# Altium schematic symbol library micro-intel.SCHLIB: 81 symbols (part 1 of 2)
Pins are listed as number, name and electrical type; pins without a type are passive.

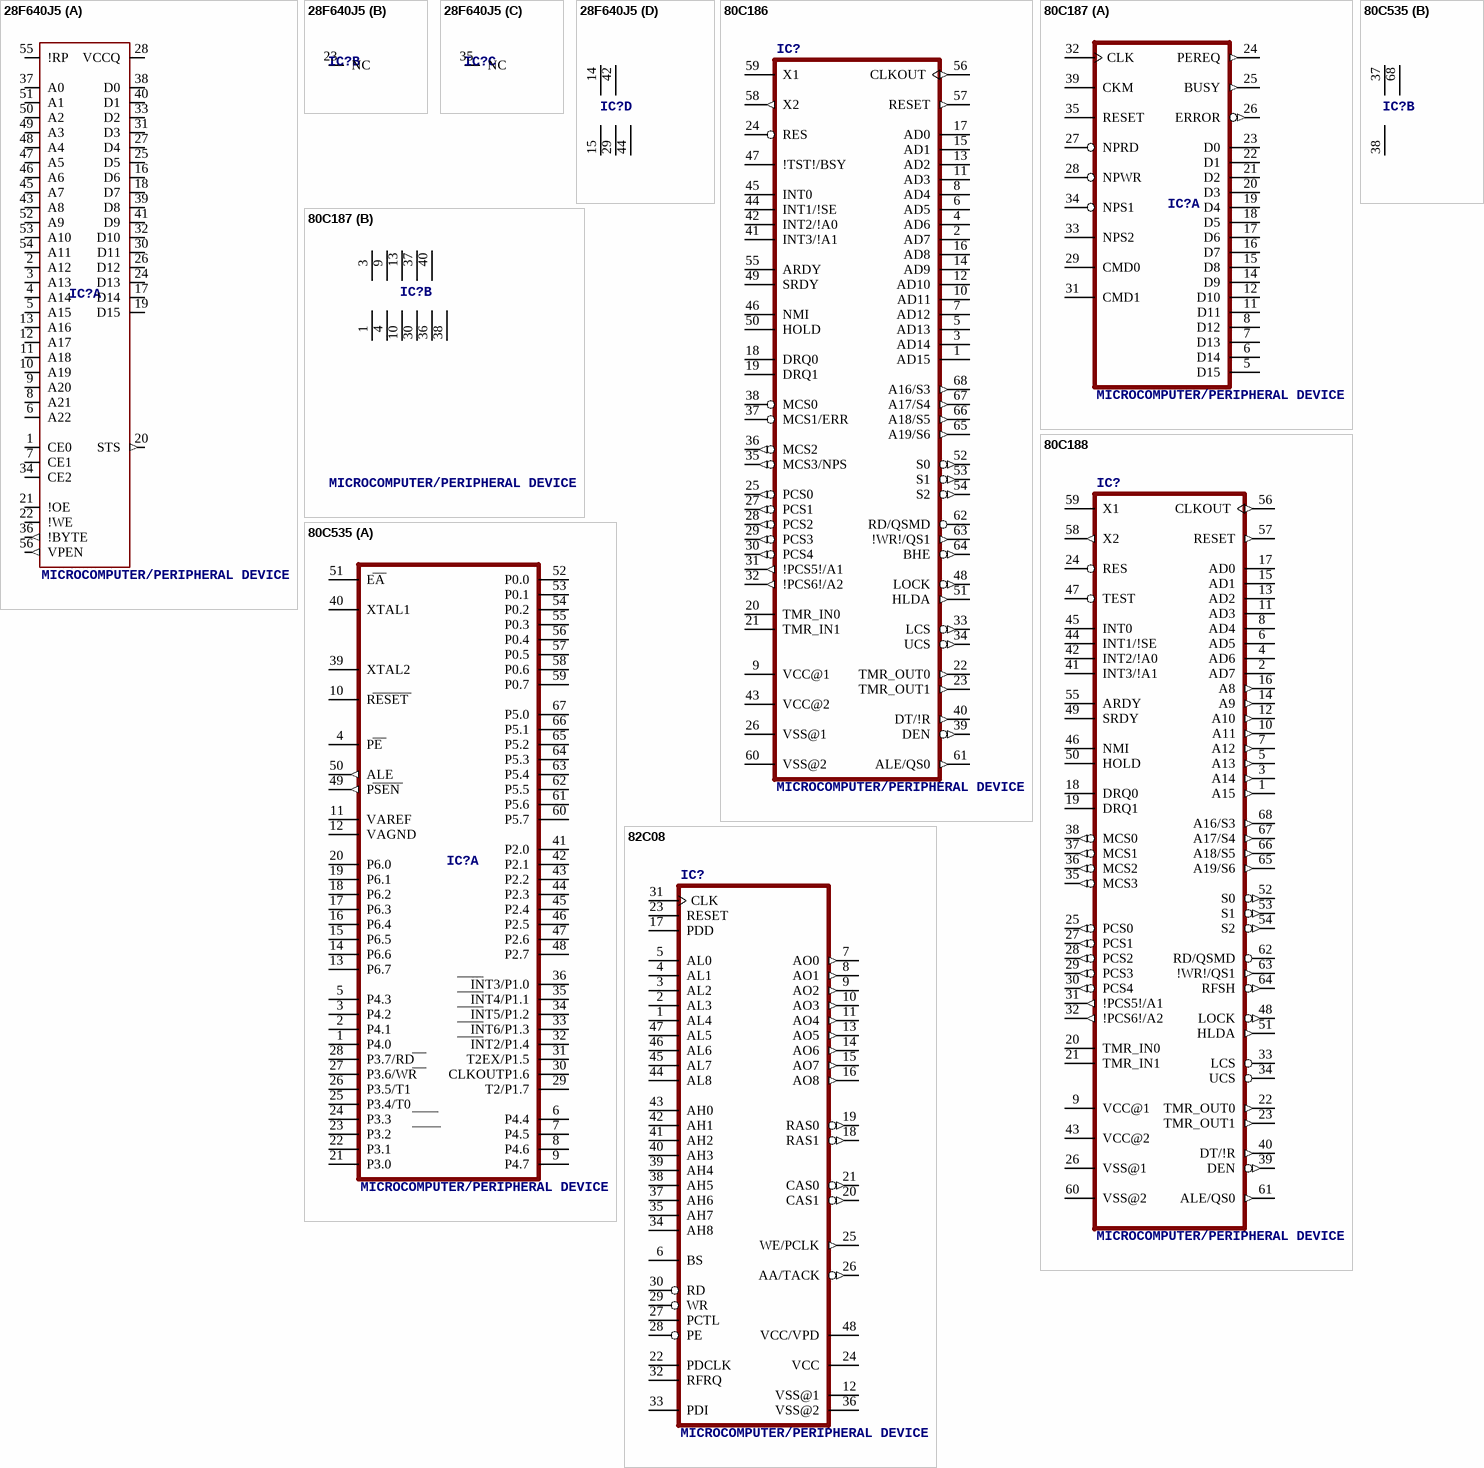
[diagram p0: symbols 28F640J5 to 82C08]

## 28F640J5
designator IC?, comment MICROCOMPUTER/PERIPHERAL DEVICE
OC_FARNELL: unknown; OC_NEWARK: unknown
footprint TSOP56
part A pins: 1 CE0, 2 A12, 3 A13, 4 A14, 5 A15, 6 A22, 7 CE1, 8 A21, 9 A20, 10 A19, 11 A18, 12 A17, 13 A16, 16 D6 (hiz), 17 D14 (hiz), 18 D7 (hiz), 19 D15 (hiz), 20 STS (out), 21 !OE, 22 !WE, 24 D13 (hiz), 25 D5 (hiz), 26 D12 (hiz), 27 D4 (hiz), 28 VCCQ (power), 30 D11 (hiz), 31 D3 (hiz), 32 D10 (hiz), 33 D2 (hiz), 34 CE2, 36 !BYTE (out), 37 A0, 38 D0 (hiz), 39 D8 (hiz), 40 D1 (hiz), 41 D9 (hiz), 43 A8, 45 A7, 46 A6, 47 A5, 48 A4, 49 A3, 50 A2, 51 A1, 52 A9, 53 A10, 54 A11, 55 !RP, 56 VPEN (out)
part B pins: 23 NC
part C pins: 35 NC
part D pins: 14 VCC@1 (power), 15 GND@1 (power), 29 GND@2 (power), 42 VCC@2 (power), 44 GND@3 (power)

## 80C186
designator IC?, comment MICROCOMPUTER/PERIPHERAL DEVICE
OC_FARNELL: unknown; OC_NEWARK: unknown
footprint PGA68-N
pins: 1 AD15, 2 AD7, 3 AD14, 4 AD6, 5 AD13, 6 AD5, 7 AD12, 8 AD4, 9 VCC@1 (power), 10 AD11, 11 AD3, 12 AD10, 13 AD2, 14 AD9, 15 AD1, 16 AD8, 17 AD0, 18 DRQ0, 19 DRQ1, 20 TMR_IN0, 21 TMR_IN1, 22 TMR_OUT0 (out), 23 TMR_OUT1 (out), 24 RES, 25 PCS0 (out), 26 VSS@1 (power), 27 PCS1 (out), 28 PCS2 (out), 29 PCS3 (out), 30 PCS4 (out), 31 !PCS5!/A1 (out), 32 !PCS6!/A2 (out), 33 LCS (out), 34 UCS (out), 35 MCS3/NPS (out), 36 MCS2 (out), 37 MCS1/ERR, 38 MCS0, 39 DEN (out), 40 DT/!R (out), 41 INT3/!A1, 42 INT2/!A0, 43 VCC@2 (power), 44 INT1/!SE, 45 INT0, 46 NMI, 47 !TST!/BSY, 48 LOCK (out), 49 SRDY, 50 HOLD, 51 HLDA (out), 52 S0 (out), 53 S1 (out), 54 S2 (out), 55 ARDY, 56 CLKOUT (out), 57 RESET (out), 58 X2 (out), 59 X1, 60 VSS@2 (power), 61 ALE/QS0 (out), 62 RD/QSMD, 63 !WR!/QS1 (out), 64 BHE (out), 65 A19/S6 (out), 66 A18/S5 (out), 67 A17/S4 (out), 68 A16/S3 (out)

## 80C187
designator IC?, comment MICROCOMPUTER/PERIPHERAL DEVICE
OC_FARNELL: unknown; OC_NEWARK: unknown
footprint DIL40
part A pins: 5 D15, 6 D14, 7 D13, 8 D12, 11 D11, 12 D10, 14 D9, 15 D8, 16 D7, 17 D6, 18 D5, 19 D4, 20 D3, 21 D2, 22 D1, 23 D0, 24 PEREQ (out), 25 BUSY (out), 26 ERROR (out), 27 NPRD, 28 NPWR, 29 CMD0, 31 CMD1, 32 CLK, 33 NPS2, 34 NPS1, 35 RESET, 39 CKM
part B pins: 1 GND@1 (power), 3 VCC@1 (power), 4 GND@2 (power), 9 VCC@2 (power), 10 GND@3 (power), 13 VCC@3 (power), 30 GND@4 (power), 36 GND@5 (power), 37 VCC@4 (power), 38 GND@6 (power), 40 VCC@5 (power)

## 80C188
designator IC?, comment MICROCOMPUTER/PERIPHERAL DEVICE
OC_FARNELL: unknown; OC_NEWARK: unknown
footprint PGA68-N
pins: 1 A15 (out), 2 AD7, 3 A14 (out), 4 AD6, 5 A13 (out), 6 AD5, 7 A12 (out), 8 AD4, 9 VCC@1 (power), 10 A11 (out), 11 AD3, 12 A10 (out), 13 AD2, 14 A9 (out), 15 AD1, 16 A8 (out), 17 AD0, 18 DRQ0, 19 DRQ1, 20 TMR_IN0, 21 TMR_IN1, 22 TMR_OUT0 (out), 23 TMR_OUT1 (out), 24 RES, 25 PCS0 (out), 26 VSS@1 (power), 27 PCS1 (out), 28 PCS2 (out), 29 PCS3 (out), 30 PCS4 (out), 31 !PCS5!/A1 (out), 32 !PCS6!/A2 (out), 33 LCS, 34 UCS, 35 MCS3 (out), 36 MCS2 (out), 37 MCS1 (out), 38 MCS0 (out), 39 DEN (out), 40 DT/!R (out), 41 INT3/!A1, 42 INT2/!A0, 43 VCC@2 (power), 44 INT1/!SE, 45 INT0, 46 NMI, 47 TEST, 48 LOCK (out), 49 SRDY, 50 HOLD, 51 HLDA (out), 52 S0 (out), 53 S1 (out), 54 S2 (out), 55 ARDY, 56 CLKOUT (out), 57 RESET (out), 58 X2 (out), 59 X1, 60 VSS@2 (power), 61 ALE/QS0 (out), 62 RD/QSMD, 63 !WR!/QS1 (out), 64 RFSH (out), 65 A19/S6 (out), 66 A18/S5 (out), 67 A17/S4 (out), 68 A16/S3 (out)

## 80C535
designator IC?, comment MICROCOMPUTER/PERIPHERAL DEVICE
OC_FARNELL: unknown; OC_NEWARK: unknown
footprint S68
part A pins: 1 P4.0, 2 P4.1, 3 P4.2, 4 PE, 5 P4.3, 6 P4.4, 7 P4.5, 8 P4.6, 9 P4.7, 10 RESET, 11 VAREF, 12 VAGND, 13 P6.7, 14 P6.6, 15 P6.5, 16 P6.4, 17 P6.3, 18 P6.2, 19 P6.1, 20 P6.0, 21 P3.0, 22 P3.1, 23 P3.2, 24 P3.3, 25 P3.4/T0, 26 P3.5/T1, 27 P3.6/WR, 28 P3.7/RD, 29 T2/P1.7, 30 CLKOUTP1.6, 31 T2EX/P1.5, 32 INT2/P1.4, 33 INT6/P1.3, 34 INT5/P1.2, 35 INT4/P1.1, 36 INT3/P1.0, 39 XTAL2, 40 XTAL1, 41 P2.0, 42 P2.1, 43 P2.2, 44 P2.3, 45 P2.4, 46 P2.5, 47 P2.6, 48 P2.7, 49 PSEN (out), 50 ALE (out), 51 EA, 52 P0.0, 53 P0.1, 54 P0.2, 55 P0.3, 56 P0.4, 57 P0.5, 58 P0.6, 59 P0.7, 60 P5.7, 61 P5.6, 62 P5.5, 63 P5.4, 64 P5.3, 65 P5.2, 66 P5.1, 67 P5.0
part B pins: 37 VCC (power), 38 GND (power), 68 VCC@1 (power)

## 82C08
designator IC?, comment MICROCOMPUTER/PERIPHERAL DEVICE
OC_FARNELL: unknown; OC_NEWARK: unknown
footprint DIL48
pins: 1 AL4, 2 AL3, 3 AL2, 4 AL1, 5 AL0, 6 BS, 7 AO0 (out), 8 AO1 (out), 9 AO2 (out), 10 AO3 (out), 11 AO4 (out), 12 VSS@1 (power), 13 AO5 (out), 14 AO6 (out), 15 AO7 (out), 16 AO8 (out), 17 PDD, 18 RAS1 (out), 19 RAS0 (out), 20 CAS1 (out), 21 CAS0 (out), 22 PDCLK, 23 RESET, 24 VCC (power), 25 WE/PCLK (out), 26 AA/TACK (out), 27 PCTL, 28 PE, 29 WR, 30 RD, 31 CLK, 32 RFRQ, 33 PDI, 34 AH8, 35 AH7, 36 VSS@2 (power), 37 AH6, 38 AH5, 39 AH4, 40 AH3, 41 AH2, 42 AH1, 43 AH0, 44 AL8, 45 AL7, 46 AL6, 47 AL5, 48 VCC/VPD (power)

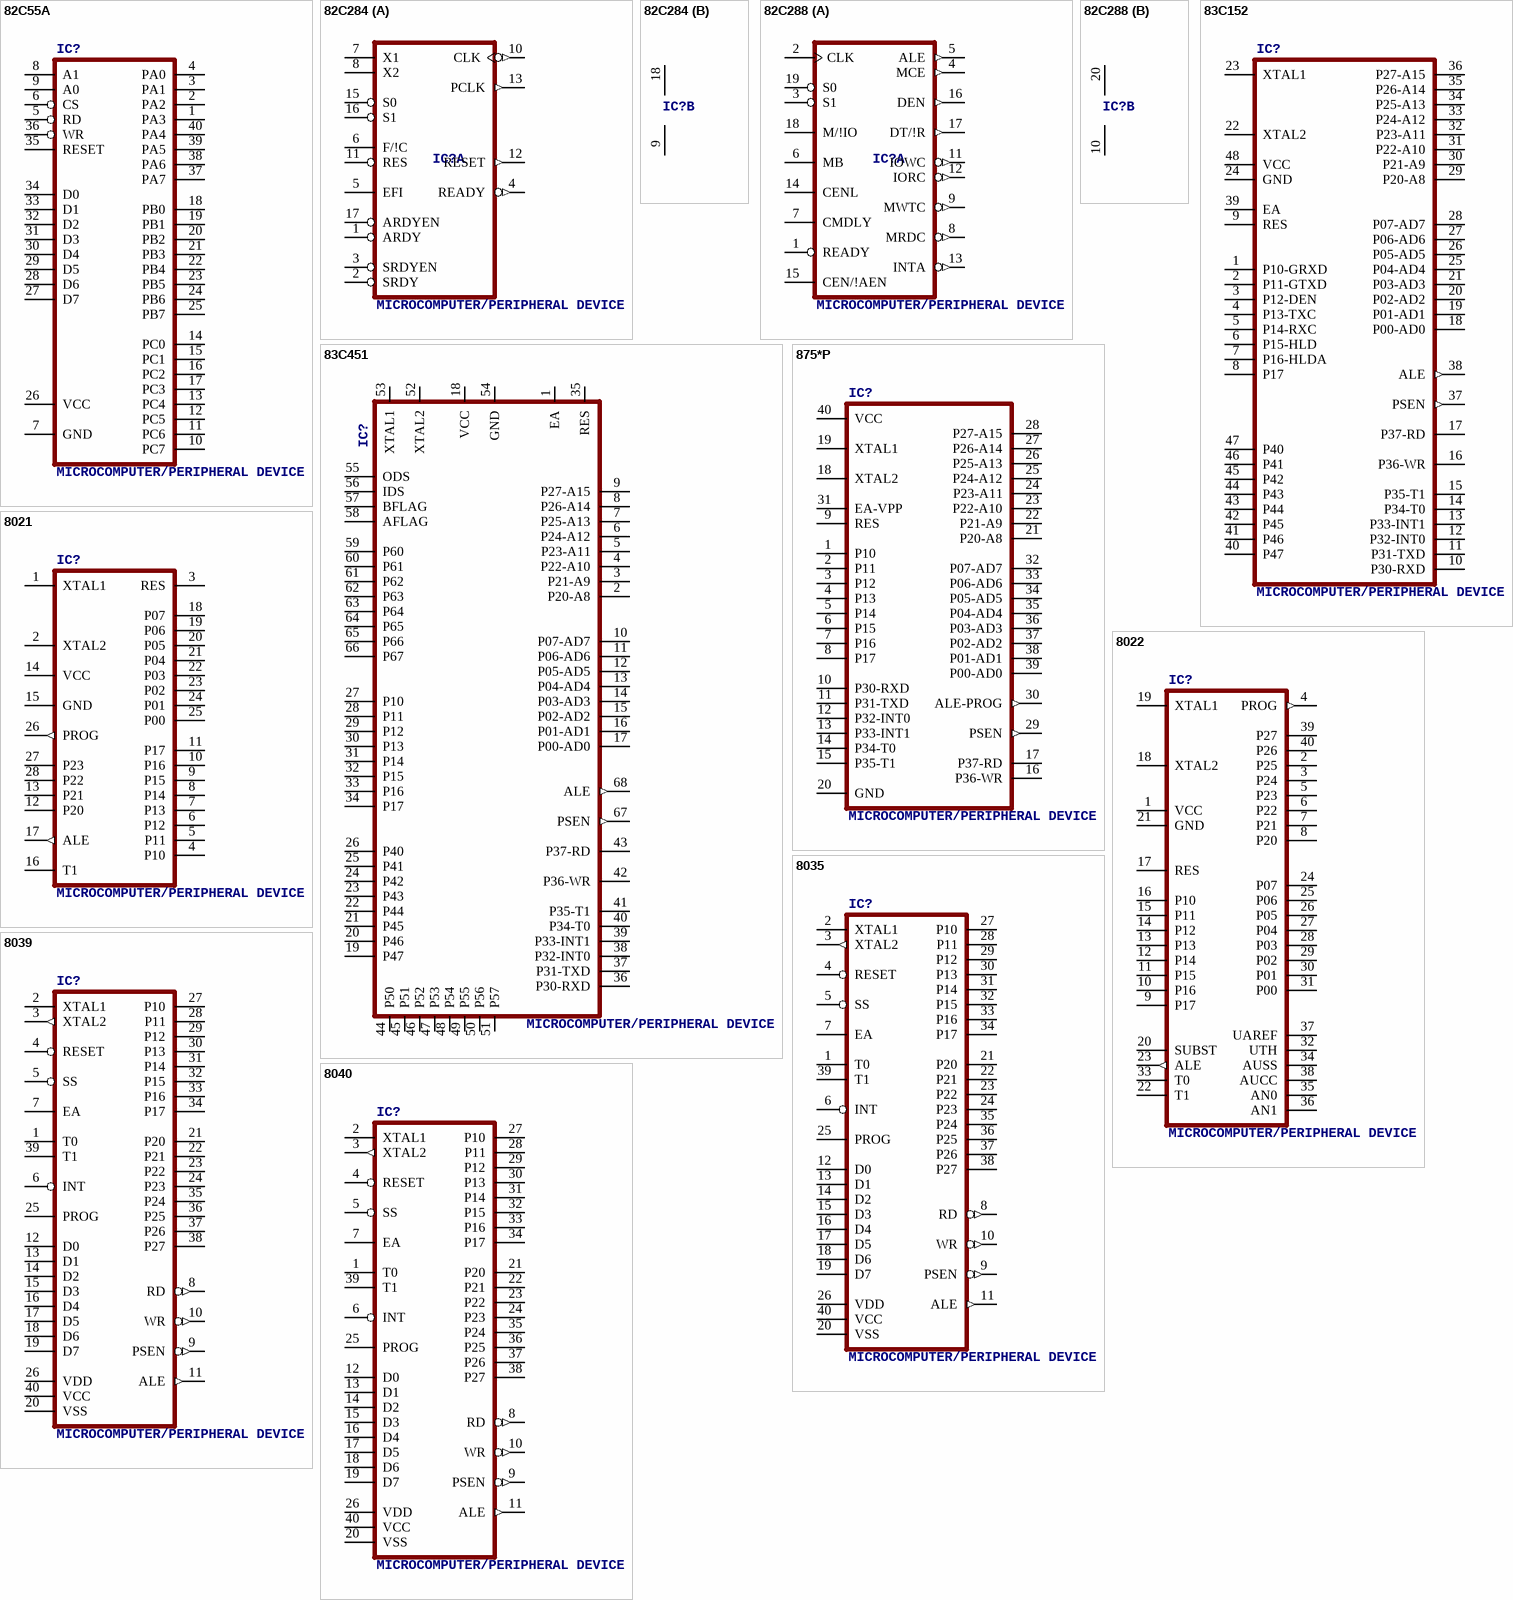
[diagram p1: symbols 82C55A to 8040]

## 82C55A
designator IC?, comment MICROCOMPUTER/PERIPHERAL DEVICE
MPN: IP82C55AZ; MF: INTERSIL; OC_FARNELL: 1562050; OC_NEWARK: 79K6939
footprint DIL40
pins: 1 PA3, 2 PA2, 3 PA1, 4 PA0, 5 RD, 6 CS, 7 GND (power), 8 A1, 9 A0, 10 PC7, 11 PC6, 12 PC5, 13 PC4, 14 PC0, 15 PC1, 16 PC2, 17 PC3, 18 PB0, 19 PB1, 20 PB2, 21 PB3, 22 PB4, 23 PB5, 24 PB6, 25 PB7, 26 VCC (power), 27 D7, 28 D6, 29 D5, 30 D4, 31 D3, 32 D2, 33 D1, 34 D0, 35 RESET, 36 WR, 37 PA7, 38 PA6, 39 PA5, 40 PA4

## 82C284
designator IC?, comment MICROCOMPUTER/PERIPHERAL DEVICE
OC_FARNELL: unknown; OC_NEWARK: unknown
footprint DIL18
part A pins: 1 ARDY, 2 SRDY, 3 SRDYEN, 4 READY (out), 5 EFI, 6 F/!C, 7 X1, 8 X2, 10 CLK (out), 11 RES, 12 RESET (out), 13 PCLK (out), 15 S0, 16 S1, 17 ARDYEN
part B pins: 9 GND (power), 18 VCC (power)

## 82C288
designator IC?, comment MICROCOMPUTER/PERIPHERAL DEVICE
OC_FARNELL: unknown; OC_NEWARK: unknown
footprint DIL20
part A pins: 1 READY, 2 CLK, 3 S1, 4 MCE (out), 5 ALE (out), 6 MB, 7 CMDLY, 8 MRDC (out), 9 MWTC (out), 11 IOWC (out), 12 IORC (out), 13 INTA (out), 14 CENL, 15 CEN/!AEN, 16 DEN (out), 17 DT/!R (out), 18 M/!IO, 19 S0
part B pins: 10 GND (power), 20 VCC (power)

## 83C152
designator IC?, comment MICROCOMPUTER/PERIPHERAL DEVICE
OC_FARNELL: unknown; OC_NEWARK: unknown
footprint DIL48
pins: 1 P10-GRXD, 2 P11-GTXD, 3 P12-DEN, 4 P13-TXC, 5 P14-RXC, 6 P15-HLD, 7 P16-HLDA, 8 P17, 9 RES, 10 P30-RXD, 11 P31-TXD, 12 P32-INT0, 13 P33-INT1, 14 P34-T0, 15 P35-T1, 16 P36-WR, 17 P37-RD, 18 P00-AD0, 19 P01-AD1, 20 P02-AD2, 21 P03-AD3, 22 XTAL2, 23 XTAL1, 24 GND (power), 25 P04-AD4, 26 P05-AD5, 27 P06-AD6, 28 P07-AD7, 29 P20-A8, 30 P21-A9, 31 P22-A10, 32 P23-A11, 33 P24-A12, 34 P25-A13, 35 P26-A14, 36 P27-A15, 37 PSEN (out), 38 ALE (out), 39 EA, 40 P47, 41 P46, 42 P45, 43 P44, 44 P43, 45 P42, 46 P41, 47 P40, 48 VCC (power)

## 83C451
designator IC?, comment MICROCOMPUTER/PERIPHERAL DEVICE
OC_FARNELL: unknown; OC_NEWARK: unknown
footprint S68
pins: 1 EA, 2 P20-A8, 3 P21-A9, 4 P22-A10, 5 P23-A11, 6 P24-A12, 7 P25-A13, 8 P26-A14, 9 P27-A15, 10 P07-AD7, 11 P06-AD6, 12 P05-AD5, 13 P04-AD4, 14 P03-AD3, 15 P02-AD2, 16 P01-AD1, 17 P00-AD0, 18 VCC (power), 19 P47, 20 P46, 21 P45, 22 P44, 23 P43, 24 P42, 25 P41, 26 P40, 27 P10, 28 P11, 29 P12, 30 P13, 31 P14, 32 P15, 33 P16, 34 P17, 35 RES, 36 P30-RXD, 37 P31-TXD, 38 P32-INT0, 39 P33-INT1, 40 P34-T0, 41 P35-T1, 42 P36-WR, 43 P37-RD, 44 P50, 45 P51, 46 P52, 47 P53, 48 P54, 49 P55, 50 P56, 51 P57, 52 XTAL2, 53 XTAL1, 54 GND (power), 55 ODS, 56 IDS, 57 BFLAG, 58 AFLAG, 59 P60, 60 P61, 61 P62, 62 P63, 63 P64, 64 P65, 65 P66, 66 P67, 67 PSEN (out), 68 ALE (out)

## 875*P
designator IC?, comment MICROCOMPUTER/PERIPHERAL DEVICE
OC_FARNELL: unknown; OC_NEWARK: unknown
footprint DIL40
pins: 1 P10, 2 P11, 3 P12, 4 P13, 5 P14, 6 P15, 7 P16, 8 P17, 9 RES, 10 P30-RXD, 11 P31-TXD, 12 P32-INT0, 13 P33-INT1, 14 P34-T0, 15 P35-T1, 16 P36-WR, 17 P37-RD, 18 XTAL2, 19 XTAL1, 20 GND (power), 21 P20-A8, 22 P21-A9, 23 P22-A10, 24 P23-A11, 25 P24-A12, 26 P25-A13, 27 P26-A14, 28 P27-A15, 29 PSEN (out), 30 ALE-PROG (out), 31 EA-VPP, 32 P07-AD7, 33 P06-AD6, 34 P05-AD5, 35 P04-AD4, 36 P03-AD3, 37 P02-AD2, 38 P01-AD1, 39 P00-AD0, 40 VCC (power)

## 8021
designator IC?, comment MICROCOMPUTER/PERIPHERAL DEVICE
OC_FARNELL: unknown; OC_NEWARK: unknown
footprint DIL28-6
pins: 1 XTAL1, 2 XTAL2, 3 RES, 4 P10, 5 P11, 6 P12, 7 P13, 8 P14, 9 P15, 10 P16, 11 P17, 12 P20, 13 P21, 14 VCC (power), 15 GND (power), 16 T1, 17 ALE (out), 18 P07, 19 P06, 20 P05, 21 P04, 22 P03, 23 P02, 24 P01, 25 P00, 26 PROG (out), 27 P23, 28 P22

## 8022
designator IC?, comment MICROCOMPUTER/PERIPHERAL DEVICE
OC_FARNELL: unknown; OC_NEWARK: unknown
footprint DIL40
pins: 1 VCC (power), 2 P25, 3 P24, 4 PROG (out), 5 P23, 6 P22, 7 P21, 8 P20, 9 P17, 10 P16, 11 P15, 12 P14, 13 P13, 14 P12, 15 P11, 16 P10, 17 RES, 18 XTAL2, 19 XTAL1, 20 SUBST, 21 GND (power), 22 T1, 23 ALE (out), 24 P07, 25 P06, 26 P05, 27 P04, 28 P03, 29 P02, 30 P01, 31 P00, 32 UTH (power), 33 T0, 34 AUSS (power), 35 AN0, 36 AN1, 37 UAREF (power), 38 AUCC (power), 39 P27, 40 P26

## 8035
designator IC?, comment MICROCOMPUTER/PERIPHERAL DEVICE
OC_FARNELL: unknown; OC_NEWARK: unknown
footprint DIL40
pins: 1 T0, 2 XTAL1, 3 XTAL2 (out), 4 RESET, 5 SS, 6 INT, 7 EA, 8 RD (out), 9 PSEN (out), 10 WR (out), 11 ALE (out), 12 D0, 13 D1, 14 D2, 15 D3, 16 D4, 17 D5, 18 D6, 19 D7, 20 VSS (power), 21 P20, 22 P21, 23 P22, 24 P23, 25 PROG, 26 VDD (power), 27 P10, 28 P11, 29 P12, 30 P13, 31 P14, 32 P15, 33 P16, 34 P17, 35 P24, 36 P25, 37 P26, 38 P27, 39 T1, 40 VCC (power)

## 8039
designator IC?, comment MICROCOMPUTER/PERIPHERAL DEVICE
OC_FARNELL: unknown; OC_NEWARK: unknown
footprint DIL40
pins: 1 T0, 2 XTAL1, 3 XTAL2 (out), 4 RESET, 5 SS, 6 INT, 7 EA, 8 RD (out), 9 PSEN (out), 10 WR (out), 11 ALE (out), 12 D0, 13 D1, 14 D2, 15 D3, 16 D4, 17 D5, 18 D6, 19 D7, 20 VSS (power), 21 P20, 22 P21, 23 P22, 24 P23, 25 PROG, 26 VDD (power), 27 P10, 28 P11, 29 P12, 30 P13, 31 P14, 32 P15, 33 P16, 34 P17, 35 P24, 36 P25, 37 P26, 38 P27, 39 T1, 40 VCC (power)

## 8040
designator IC?, comment MICROCOMPUTER/PERIPHERAL DEVICE
OC_FARNELL: unknown; OC_NEWARK: unknown
footprint DIL40
pins: 1 T0, 2 XTAL1, 3 XTAL2 (out), 4 RESET, 5 SS, 6 INT, 7 EA, 8 RD (out), 9 PSEN (out), 10 WR (out), 11 ALE (out), 12 D0, 13 D1, 14 D2, 15 D3, 16 D4, 17 D5, 18 D6, 19 D7, 20 VSS (power), 21 P20, 22 P21, 23 P22, 24 P23, 25 PROG, 26 VDD (power), 27 P10, 28 P11, 29 P12, 30 P13, 31 P14, 32 P15, 33 P16, 34 P17, 35 P24, 36 P25, 37 P26, 38 P27, 39 T1, 40 VCC (power)

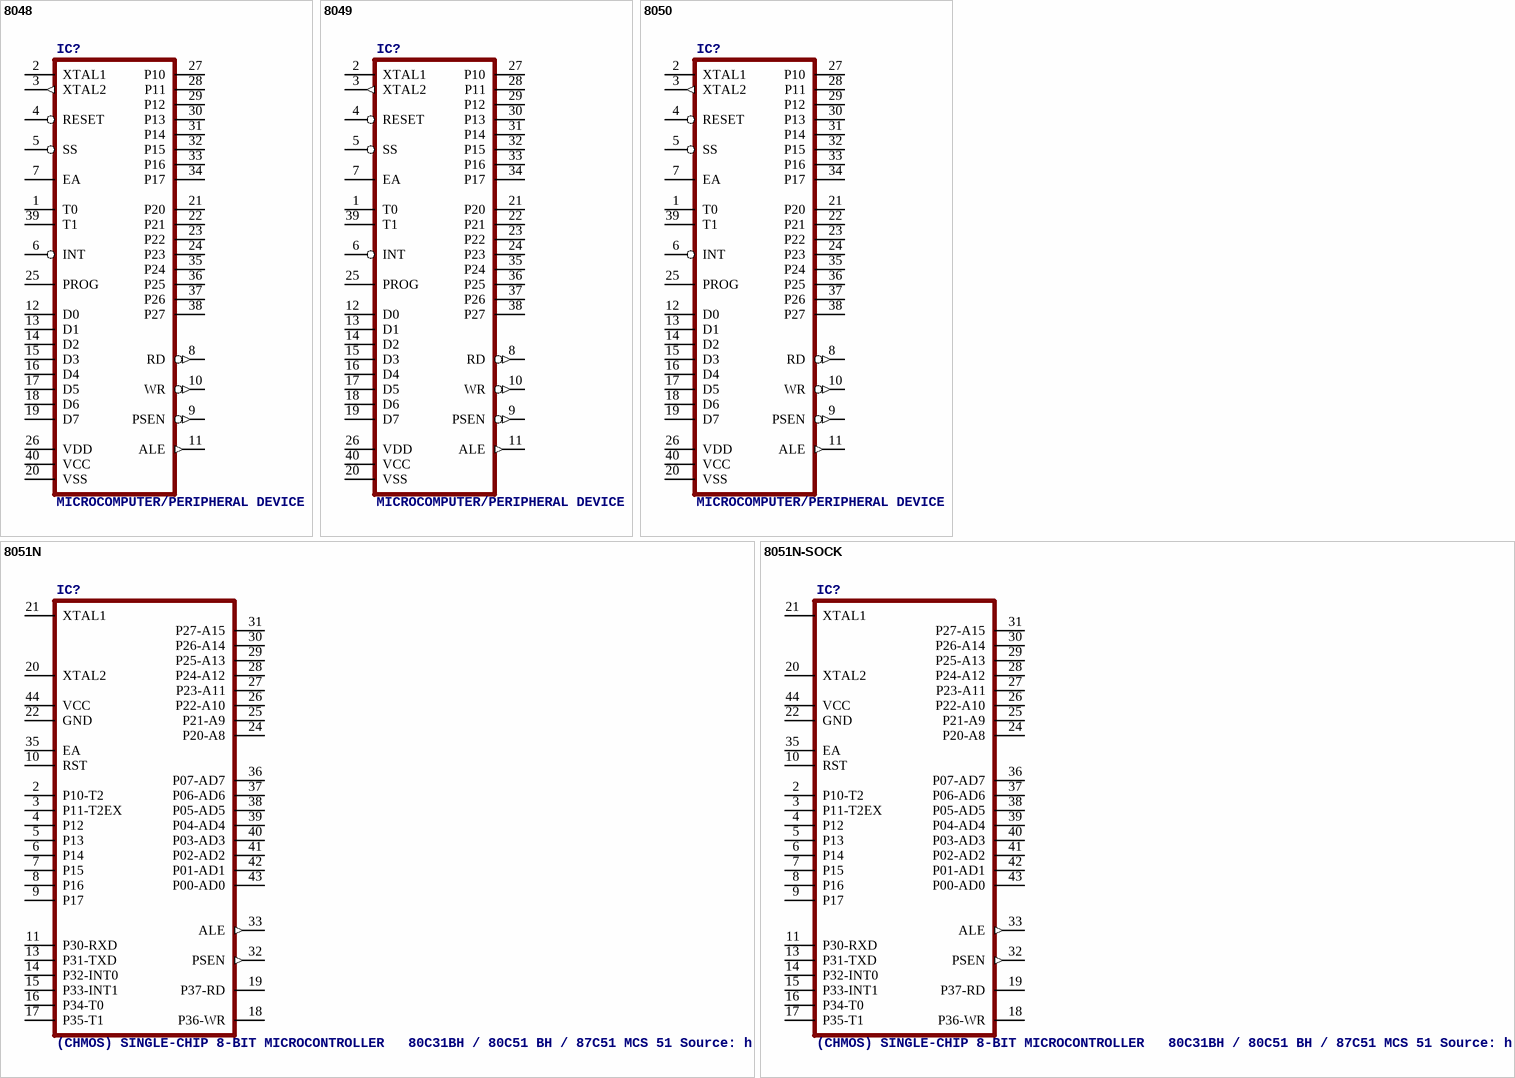
[diagram p2: symbols 8048 to 8051N-SOCK]

## 8048
designator IC?, comment MICROCOMPUTER/PERIPHERAL DEVICE
OC_FARNELL: unknown; OC_NEWARK: unknown
footprint DIL40
pins: 1 T0, 2 XTAL1, 3 XTAL2 (out), 4 RESET, 5 SS, 6 INT, 7 EA, 8 RD (out), 9 PSEN (out), 10 WR (out), 11 ALE (out), 12 D0, 13 D1, 14 D2, 15 D3, 16 D4, 17 D5, 18 D6, 19 D7, 20 VSS (power), 21 P20, 22 P21, 23 P22, 24 P23, 25 PROG, 26 VDD (power), 27 P10, 28 P11, 29 P12, 30 P13, 31 P14, 32 P15, 33 P16, 34 P17, 35 P24, 36 P25, 37 P26, 38 P27, 39 T1, 40 VCC (power)

## 8049
designator IC?, comment MICROCOMPUTER/PERIPHERAL DEVICE
OC_FARNELL: unknown; OC_NEWARK: unknown
footprint DIL40
pins: 1 T0, 2 XTAL1, 3 XTAL2 (out), 4 RESET, 5 SS, 6 INT, 7 EA, 8 RD (out), 9 PSEN (out), 10 WR (out), 11 ALE (out), 12 D0, 13 D1, 14 D2, 15 D3, 16 D4, 17 D5, 18 D6, 19 D7, 20 VSS (power), 21 P20, 22 P21, 23 P22, 24 P23, 25 PROG, 26 VDD (power), 27 P10, 28 P11, 29 P12, 30 P13, 31 P14, 32 P15, 33 P16, 34 P17, 35 P24, 36 P25, 37 P26, 38 P27, 39 T1, 40 VCC (power)

## 8050
designator IC?, comment MICROCOMPUTER/PERIPHERAL DEVICE
OC_FARNELL: unknown; OC_NEWARK: unknown
footprint DIL40
pins: 1 T0, 2 XTAL1, 3 XTAL2 (out), 4 RESET, 5 SS, 6 INT, 7 EA, 8 RD (out), 9 PSEN (out), 10 WR (out), 11 ALE (out), 12 D0, 13 D1, 14 D2, 15 D3, 16 D4, 17 D5, 18 D6, 19 D7, 20 VSS (power), 21 P20, 22 P21, 23 P22, 24 P23, 25 PROG, 26 VDD (power), 27 P10, 28 P11, 29 P12, 30 P13, 31 P14, 32 P15, 33 P16, 34 P17, 35 P24, 36 P25, 37 P26, 38 P27, 39 T1, 40 VCC (power)

## 8051N
designator IC?, comment (CHMOS) SINGLE-CHIP 8-BIT MICROCONTROLLER   80C31BH / 80C51 BH / 87C51 MCS 51 Source: http://apps.intel.com .. 27041907.pdf
OC_FARNELL: unknown; OC_NEWARK: unknown
footprint PLCC44
pins: 2 P10-T2, 3 P11-T2EX, 4 P12, 5 P13, 6 P14, 7 P15, 8 P16, 9 P17, 10 RST, 11 P30-RXD, 13 P31-TXD, 14 P32-INT0, 15 P33-INT1, 16 P34-T0, 17 P35-T1, 18 P36-WR, 19 P37-RD, 20 XTAL2, 21 XTAL1, 22 GND (power), 24 P20-A8, 25 P21-A9, 26 P22-A10, 27 P23-A11, 28 P24-A12, 29 P25-A13, 30 P26-A14, 31 P27-A15, 32 PSEN (out), 33 ALE (out), 35 EA, 36 P07-AD7, 37 P06-AD6, 38 P05-AD5, 39 P04-AD4, 40 P03-AD3, 41 P02-AD2, 42 P01-AD1, 43 P00-AD0, 44 VCC (power)

## 8051N-SOCK
designator IC?, comment (CHMOS) SINGLE-CHIP 8-BIT MICROCONTROLLER   80C31BH / 80C51 BH / 87C51 MCS 51 Source: http://apps.intel.com .. 27041907.pdf
OC_FARNELL: unknown; OC_NEWARK: unknown
footprint S44
pins: 2 P10-T2, 3 P11-T2EX, 4 P12, 5 P13, 6 P14, 7 P15, 8 P16, 9 P17, 10 RST, 11 P30-RXD, 13 P31-TXD, 14 P32-INT0, 15 P33-INT1, 16 P34-T0, 17 P35-T1, 18 P36-WR, 19 P37-RD, 20 XTAL2, 21 XTAL1, 22 GND (power), 24 P20-A8, 25 P21-A9, 26 P22-A10, 27 P23-A11, 28 P24-A12, 29 P25-A13, 30 P26-A14, 31 P27-A15, 32 PSEN (out), 33 ALE (out), 35 EA, 36 P07-AD7, 37 P06-AD6, 38 P05-AD5, 39 P04-AD4, 40 P03-AD3, 41 P02-AD2, 42 P01-AD1, 43 P00-AD0, 44 VCC (power)

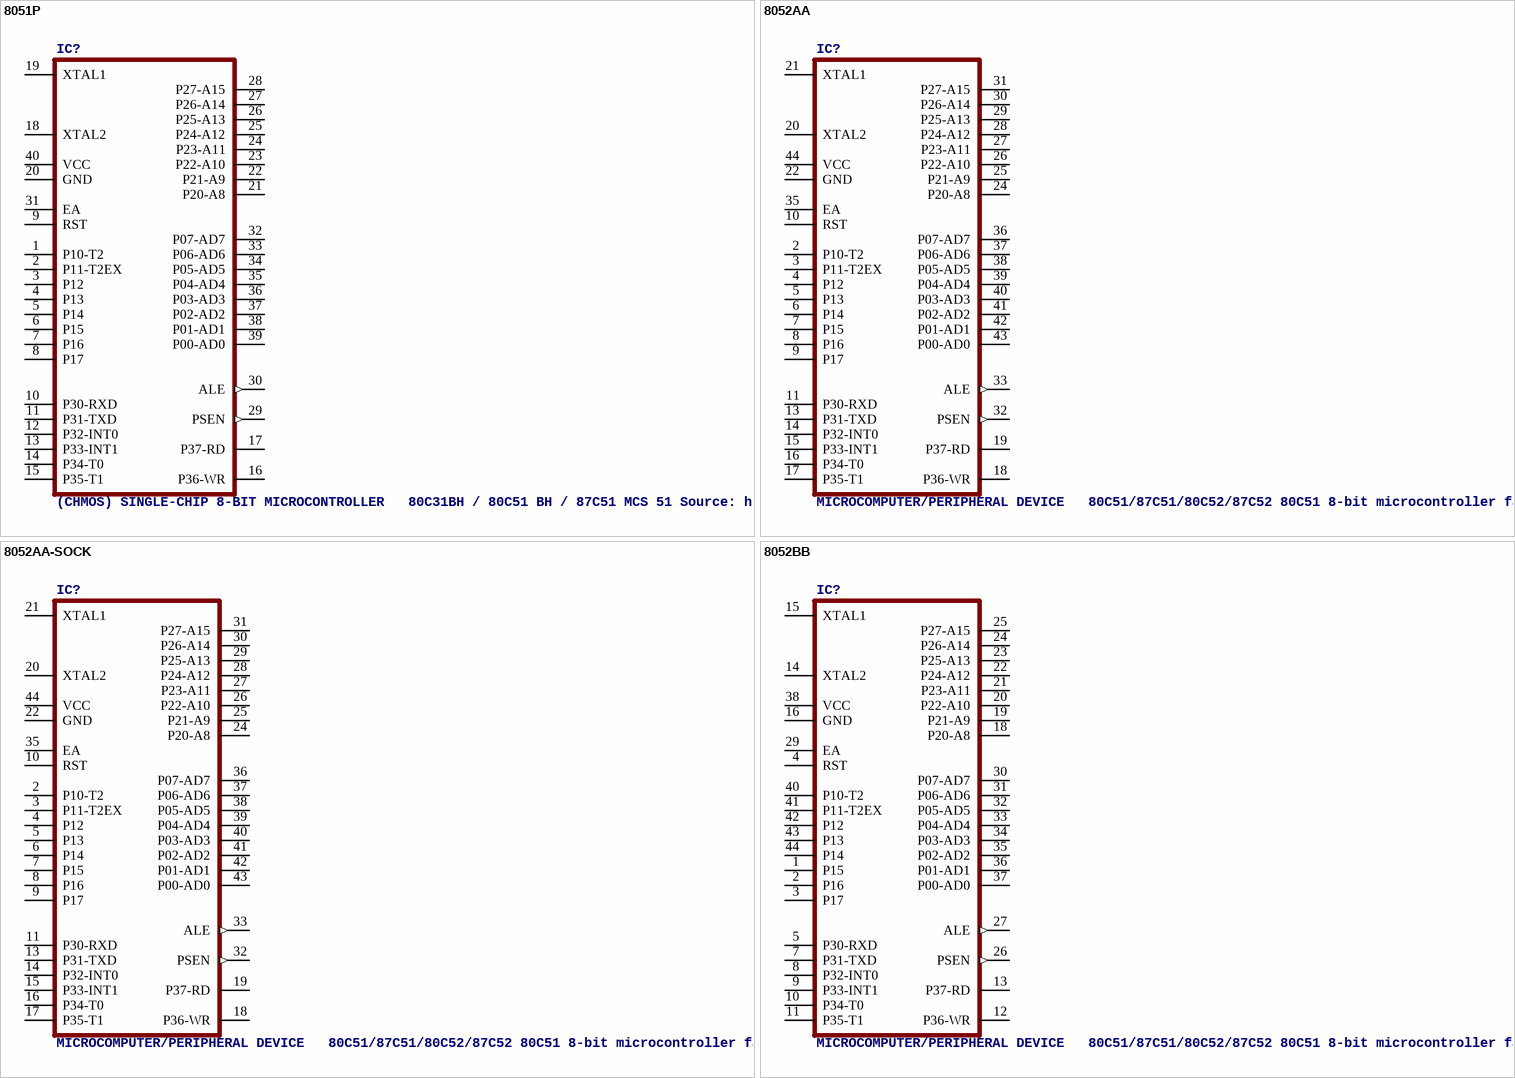
[diagram p3: symbols 8051P to 8052BB]

## 8051P
designator IC?, comment (CHMOS) SINGLE-CHIP 8-BIT MICROCONTROLLER   80C31BH / 80C51 BH / 87C51 MCS 51 Source: http://apps.intel.com .. 27041907.pdf
OC_FARNELL: unknown; OC_NEWARK: unknown
footprint DIL40
pins: 1 P10-T2, 2 P11-T2EX, 3 P12, 4 P13, 5 P14, 6 P15, 7 P16, 8 P17, 9 RST, 10 P30-RXD, 11 P31-TXD, 12 P32-INT0, 13 P33-INT1, 14 P34-T0, 15 P35-T1, 16 P36-WR, 17 P37-RD, 18 XTAL2, 19 XTAL1, 20 GND (power), 21 P20-A8, 22 P21-A9, 23 P22-A10, 24 P23-A11, 25 P24-A12, 26 P25-A13, 27 P26-A14, 28 P27-A15, 29 PSEN (out), 30 ALE (out), 31 EA, 32 P07-AD7, 33 P06-AD6, 34 P05-AD5, 35 P04-AD4, 36 P03-AD3, 37 P02-AD2, 38 P01-AD1, 39 P00-AD0, 40 VCC (power)

## 8052AA
designator IC?, comment MICROCOMPUTER/PERIPHERAL DEVICE   80C51/87C51/80C52/87C52 80C51 8-bit microcontroller family 4 K/8 K OTP/ROM low voltage (2.7 V-5.5 V), low power, high speed (33 MHz), 128/256 B RAM Source: www.semiconductors.philips.com .. 8XC51_8XC52_6.pdf
OC_FARNELL: unknown; OC_NEWARK: unknown
footprint PLCC44
pins: 2 P10-T2, 3 P11-T2EX, 4 P12, 5 P13, 6 P14, 7 P15, 8 P16, 9 P17, 10 RST, 11 P30-RXD, 13 P31-TXD, 14 P32-INT0, 15 P33-INT1, 16 P34-T0, 17 P35-T1, 18 P36-WR, 19 P37-RD, 20 XTAL2, 21 XTAL1, 22 GND (power), 24 P20-A8, 25 P21-A9, 26 P22-A10, 27 P23-A11, 28 P24-A12, 29 P25-A13, 30 P26-A14, 31 P27-A15, 32 PSEN (out), 33 ALE (out), 35 EA, 36 P07-AD7, 37 P06-AD6, 38 P05-AD5, 39 P04-AD4, 40 P03-AD3, 41 P02-AD2, 42 P01-AD1, 43 P00-AD0, 44 VCC (power)

## 8052AA-SOCK
designator IC?, comment MICROCOMPUTER/PERIPHERAL DEVICE   80C51/87C51/80C52/87C52 80C51 8-bit microcontroller family 4 K/8 K OTP/ROM low voltage (2.7 V-5.5 V), low power, high speed (33 MHz), 128/256 B RAM Source: www.semiconductors.philips.com .. 8XC51_8XC52_6.pdf
OC_FARNELL: unknown; OC_NEWARK: unknown
footprint S44
pins: 2 P10-T2, 3 P11-T2EX, 4 P12, 5 P13, 6 P14, 7 P15, 8 P16, 9 P17, 10 RST, 11 P30-RXD, 13 P31-TXD, 14 P32-INT0, 15 P33-INT1, 16 P34-T0, 17 P35-T1, 18 P36-WR, 19 P37-RD, 20 XTAL2, 21 XTAL1, 22 GND (power), 24 P20-A8, 25 P21-A9, 26 P22-A10, 27 P23-A11, 28 P24-A12, 29 P25-A13, 30 P26-A14, 31 P27-A15, 32 PSEN (out), 33 ALE (out), 35 EA, 36 P07-AD7, 37 P06-AD6, 38 P05-AD5, 39 P04-AD4, 40 P03-AD3, 41 P02-AD2, 42 P01-AD1, 43 P00-AD0, 44 VCC (power)

## 8052BB
designator IC?, comment MICROCOMPUTER/PERIPHERAL DEVICE   80C51/87C51/80C52/87C52 80C51 8-bit microcontroller family 4 K/8 K OTP/ROM low voltage (2.7 V-5.5 V), low power, high speed (33 MHz), 128/256 B RAM Source: www.semiconductors.philips.com .. 8XC51_8XC52_6.pdf
OC_FARNELL: unknown; OC_NEWARK: unknown
footprint QFP44
pins: 1 P15, 2 P16, 3 P17, 4 RST, 5 P30-RXD, 7 P31-TXD, 8 P32-INT0, 9 P33-INT1, 10 P34-T0, 11 P35-T1, 12 P36-WR, 13 P37-RD, 14 XTAL2, 15 XTAL1, 16 GND (power), 18 P20-A8, 19 P21-A9, 20 P22-A10, 21 P23-A11, 22 P24-A12, 23 P25-A13, 24 P26-A14, 25 P27-A15, 26 PSEN (out), 27 ALE (out), 29 EA, 30 P07-AD7, 31 P06-AD6, 32 P05-AD5, 33 P04-AD4, 34 P03-AD3, 35 P02-AD2, 36 P01-AD1, 37 P00-AD0, 38 VCC (power), 40 P10-T2, 41 P11-T2EX, 42 P12, 43 P13, 44 P14

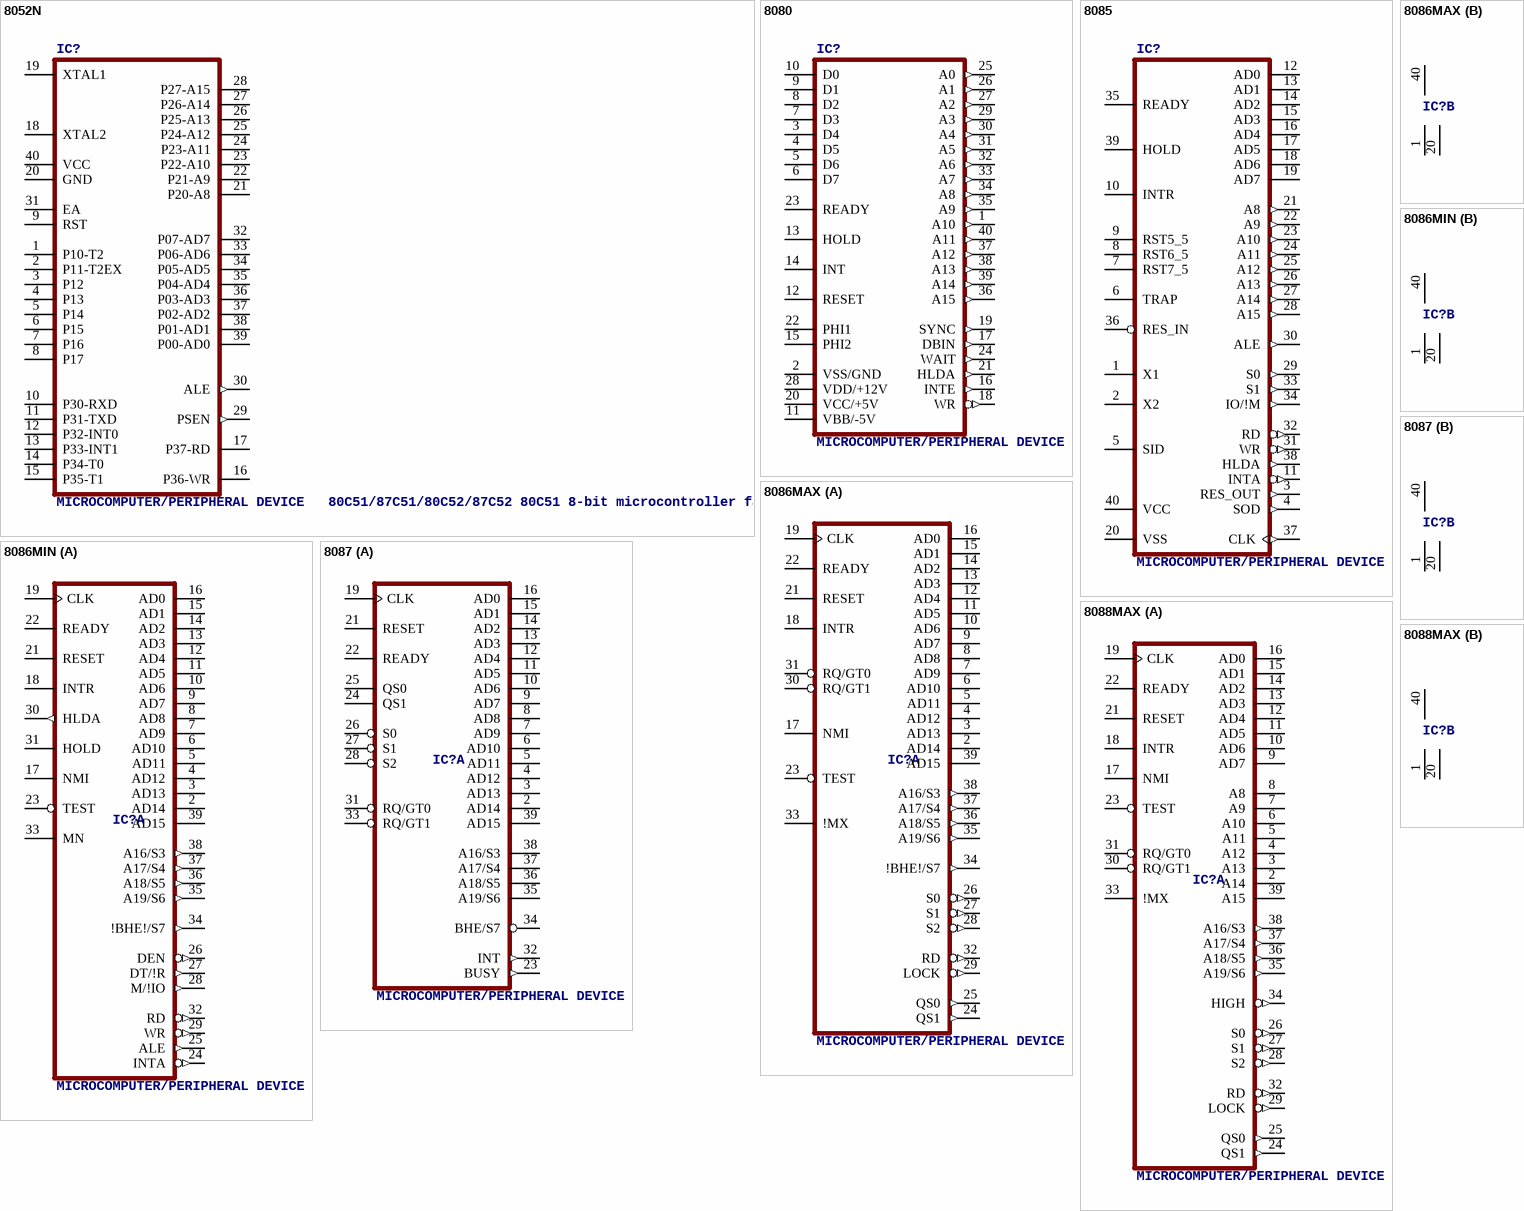
[diagram p4: symbols 8052N to 8088MAX]

## 8052N
designator IC?, comment MICROCOMPUTER/PERIPHERAL DEVICE   80C51/87C51/80C52/87C52 80C51 8-bit microcontroller family 4 K/8 K OTP/ROM low voltage (2.7 V-5.5 V), low power, high speed (33 MHz), 128/256 B RAM Source: www.semiconductors.philips.com .. 8XC51_8XC52_6.pdf
OC_FARNELL: unknown; OC_NEWARK: unknown
footprint DIL40
pins: 1 P10-T2, 2 P11-T2EX, 3 P12, 4 P13, 5 P14, 6 P15, 7 P16, 8 P17, 9 RST, 10 P30-RXD, 11 P31-TXD, 12 P32-INT0, 13 P33-INT1, 14 P34-T0, 15 P35-T1, 16 P36-WR, 17 P37-RD, 18 XTAL2, 19 XTAL1, 20 GND (power), 21 P20-A8, 22 P21-A9, 23 P22-A10, 24 P23-A11, 25 P24-A12, 26 P25-A13, 27 P26-A14, 28 P27-A15, 29 PSEN (out), 30 ALE (out), 31 EA, 32 P07-AD7, 33 P06-AD6, 34 P05-AD5, 35 P04-AD4, 36 P03-AD3, 37 P02-AD2, 38 P01-AD1, 39 P00-AD0, 40 VCC (power)

## 8080
designator IC?, comment MICROCOMPUTER/PERIPHERAL DEVICE
OC_FARNELL: unknown; OC_NEWARK: unknown
footprint DIL40
pins: 1 A10 (out), 2 VSS/GND (power), 3 D4, 4 D5, 5 D6, 6 D7, 7 D3, 8 D2, 9 D1, 10 D0, 11 VBB/-5V (power), 12 RESET, 13 HOLD, 14 INT, 15 PHI2, 16 INTE (out), 17 DBIN (out), 18 WR (out), 19 SYNC (out), 20 VCC/+5V (power), 21 HLDA (out), 22 PHI1, 23 READY, 24 WAIT (out), 25 A0 (out), 26 A1 (out), 27 A2 (out), 28 VDD/+12V (power), 29 A3 (out), 30 A4 (out), 31 A5 (out), 32 A6 (out), 33 A7 (out), 34 A8 (out), 35 A9 (out), 36 A15 (out), 37 A12 (out), 38 A13 (out), 39 A14 (out), 40 A11 (out)

## 8085
designator IC?, comment MICROCOMPUTER/PERIPHERAL DEVICE
OC_FARNELL: unknown; OC_NEWARK: unknown
footprint DIL40
pins: 1 X1, 2 X2, 3 RES_OUT (out), 4 SOD (out), 5 SID, 6 TRAP, 7 RST7_5, 8 RST6_5, 9 RST5_5, 10 INTR, 11 INTA (out), 12 AD0, 13 AD1, 14 AD2, 15 AD3, 16 AD4, 17 AD5, 18 AD6, 19 AD7, 20 VSS (power), 21 A8 (out), 22 A9 (out), 23 A10 (out), 24 A11 (out), 25 A12 (out), 26 A13 (out), 27 A14 (out), 28 A15 (out), 29 S0 (out), 30 ALE (out), 31 WR (out), 32 RD (out), 33 S1 (out), 34 IO/!M (out), 35 READY, 36 RES_IN, 37 CLK (out), 38 HLDA (out), 39 HOLD, 40 VCC (power)

## 8086MAX
designator IC?, comment MICROCOMPUTER/PERIPHERAL DEVICE
OC_FARNELL: unknown; OC_NEWARK: unknown
footprint DIL40
part A pins: 2 AD14, 3 AD13, 4 AD12, 5 AD11, 6 AD10, 7 AD9, 8 AD8, 9 AD7, 10 AD6, 11 AD5, 12 AD4, 13 AD3, 14 AD2, 15 AD1, 16 AD0, 17 NMI, 18 INTR, 19 CLK, 21 RESET, 22 READY, 23 TEST, 24 QS1 (out), 25 QS0 (out), 26 S0 (out), 27 S1 (out), 28 S2 (out), 29 LOCK (out), 30 RQ/GT1, 31 RQ/GT0, 32 RD (out), 33 !MX, 34 !BHE!/S7 (out), 35 A19/S6 (out), 36 A18/S5 (out), 37 A17/S4 (out), 38 A16/S3 (out), 39 AD15
part B pins: 1 GND@1 (power), 20 GND@2 (power), 40 VCC (power)

## 8086MIN
designator IC?, comment MICROCOMPUTER/PERIPHERAL DEVICE
OC_FARNELL: unknown; OC_NEWARK: unknown
footprint DIL40
part A pins: 2 AD14, 3 AD13, 4 AD12, 5 AD11, 6 AD10, 7 AD9, 8 AD8, 9 AD7, 10 AD6, 11 AD5, 12 AD4, 13 AD3, 14 AD2, 15 AD1, 16 AD0, 17 NMI, 18 INTR, 19 CLK, 21 RESET, 22 READY, 23 TEST, 24 INTA (out), 25 ALE (out), 26 DEN (out), 27 DT/!R (out), 28 M/!IO (out), 29 WR (out), 30 HLDA (out), 31 HOLD, 32 RD (out), 33 MN, 34 !BHE!/S7 (out), 35 A19/S6 (out), 36 A18/S5 (out), 37 A17/S4 (out), 38 A16/S3 (out), 39 AD15
part B pins: 1 GND@1 (power), 20 GND@2 (power), 40 VCC (power)

## 8087
designator IC?, comment MICROCOMPUTER/PERIPHERAL DEVICE
OC_FARNELL: unknown; OC_NEWARK: unknown
footprint DIL40
part A pins: 2 AD14, 3 AD13, 4 AD12, 5 AD11, 6 AD10, 7 AD9, 8 AD8, 9 AD7, 10 AD6, 11 AD5, 12 AD4, 13 AD3, 14 AD2, 15 AD1, 16 AD0, 19 CLK, 21 RESET, 22 READY, 23 BUSY (out), 24 QS1, 25 QS0, 26 S0, 27 S1, 28 S2, 31 RQ/GT0, 32 INT (out), 33 RQ/GT1, 34 BHE/S7, 35 A19/S6, 36 A18/S5, 37 A17/S4, 38 A16/S3, 39 AD15
part B pins: 1 GND@1 (power), 20 GND@2 (power), 40 VCC (power)

## 8088MAX
designator IC?, comment MICROCOMPUTER/PERIPHERAL DEVICE
OC_FARNELL: unknown; OC_NEWARK: unknown
footprint DIL40
part A pins: 2 A14, 3 A13, 4 A12, 5 A11, 6 A10, 7 A9, 8 A8, 9 AD7, 10 AD6, 11 AD5, 12 AD4, 13 AD3, 14 AD2, 15 AD1, 16 AD0, 17 NMI, 18 INTR, 19 CLK, 21 RESET, 22 READY, 23 TEST, 24 QS1 (out), 25 QS0 (out), 26 S0 (out), 27 S1 (out), 28 S2 (out), 29 LOCK (out), 30 RQ/GT1, 31 RQ/GT0, 32 RD (out), 33 !MX, 34 HIGH (out), 35 A19/S6 (out), 36 A18/S5 (out), 37 A17/S4 (out), 38 A16/S3 (out), 39 A15
part B pins: 1 GND@1 (power), 20 GND@2 (power), 40 VCC (power)

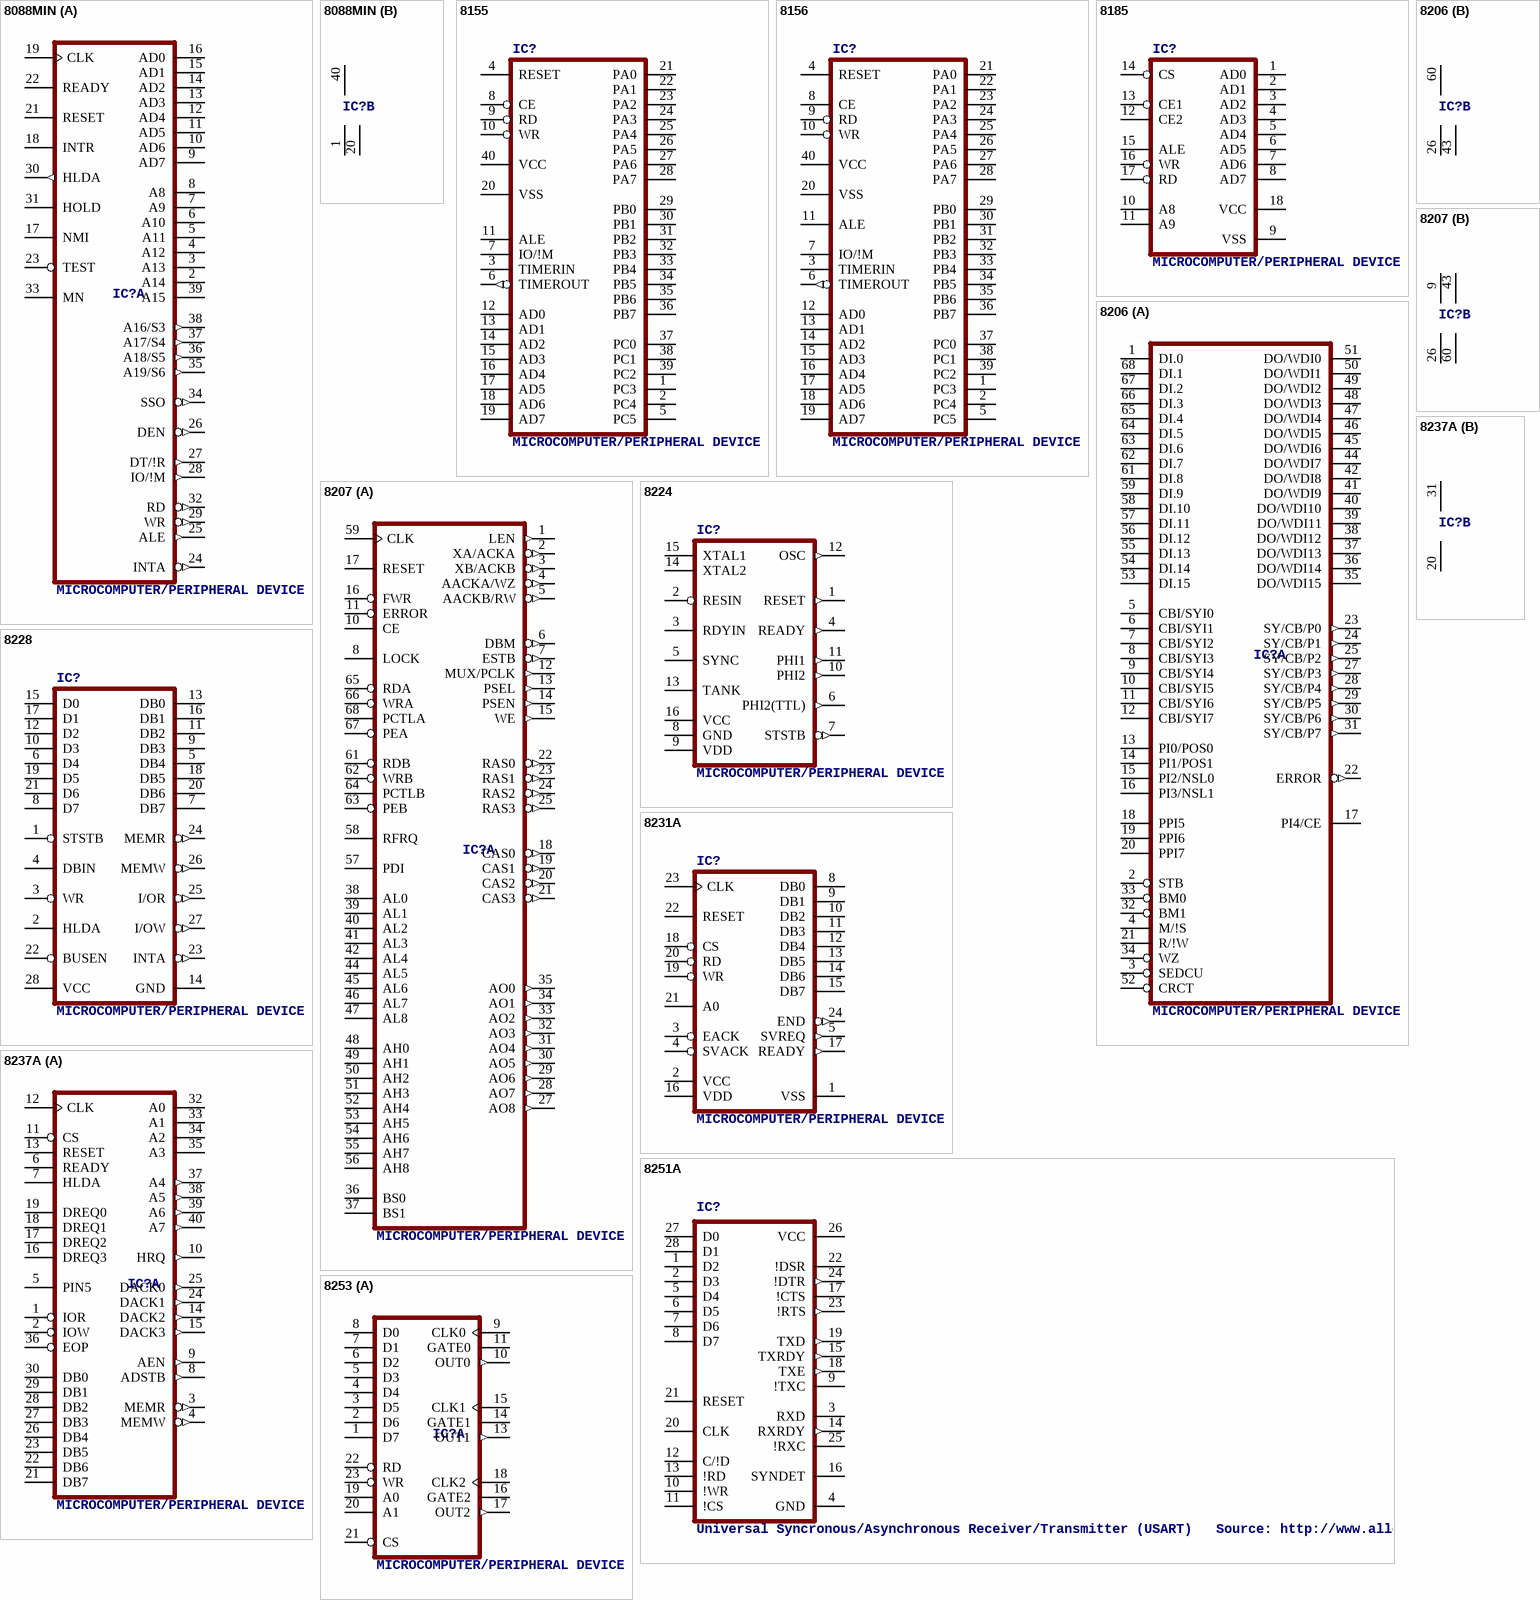
[diagram p5: symbols 8088MIN to 8253]

## 8088MIN
designator IC?, comment MICROCOMPUTER/PERIPHERAL DEVICE
OC_FARNELL: unknown; OC_NEWARK: unknown
footprint DIL40
part A pins: 2 A14, 3 A13, 4 A12, 5 A11, 6 A10, 7 A9, 8 A8, 9 AD7, 10 AD6, 11 AD5, 12 AD4, 13 AD3, 14 AD2, 15 AD1, 16 AD0, 17 NMI, 18 INTR, 19 CLK, 21 RESET, 22 READY, 23 TEST, 24 INTA (out), 25 ALE (out), 26 DEN (out), 27 DT/!R (out), 28 IO/!M (out), 29 WR (out), 30 HLDA (out), 31 HOLD, 32 RD (out), 33 MN, 34 SSO (out), 35 A19/S6 (out), 36 A18/S5 (out), 37 A17/S4 (out), 38 A16/S3 (out), 39 A15
part B pins: 1 GND@1 (power), 20 GND@2 (power), 40 VCC (power)

## 8155
designator IC?, comment MICROCOMPUTER/PERIPHERAL DEVICE
OC_FARNELL: unknown; OC_NEWARK: unknown
footprint DIL40
pins: 1 PC3, 2 PC4, 3 TIMERIN, 4 RESET, 5 PC5, 6 TIMEROUT (out), 7 IO/!M, 8 CE, 9 RD, 10 WR, 11 ALE, 12 AD0, 13 AD1, 14 AD2, 15 AD3, 16 AD4, 17 AD5, 18 AD6, 19 AD7, 20 VSS (power), 21 PA0, 22 PA1, 23 PA2, 24 PA3, 25 PA4, 26 PA5, 27 PA6, 28 PA7, 29 PB0, 30 PB1, 31 PB2, 32 PB3, 33 PB4, 34 PB5, 35 PB6, 36 PB7, 37 PC0, 38 PC1, 39 PC2, 40 VCC (power)

## 8156
designator IC?, comment MICROCOMPUTER/PERIPHERAL DEVICE
OC_FARNELL: unknown; OC_NEWARK: unknown
footprint DIL40
pins: 1 PC3, 2 PC4, 3 TIMERIN, 4 RESET, 5 PC5, 6 TIMEROUT (out), 7 IO/!M, 8 CE, 9 RD, 10 WR, 11 ALE, 12 AD0, 13 AD1, 14 AD2, 15 AD3, 16 AD4, 17 AD5, 18 AD6, 19 AD7, 20 VSS (power), 21 PA0, 22 PA1, 23 PA2, 24 PA3, 25 PA4, 26 PA5, 27 PA6, 28 PA7, 29 PB0, 30 PB1, 31 PB2, 32 PB3, 33 PB4, 34 PB5, 35 PB6, 36 PB7, 37 PC0, 38 PC1, 39 PC2, 40 VCC (power)

## 8185
designator IC?, comment MICROCOMPUTER/PERIPHERAL DEVICE
OC_FARNELL: unknown; OC_NEWARK: unknown
footprint DIL18
pins: 1 AD0, 2 AD1, 3 AD2, 4 AD3, 5 AD4, 6 AD5, 7 AD6, 8 AD7, 9 VSS (power), 10 A8, 11 A9, 12 CE2, 13 CE1, 14 CS, 15 ALE, 16 WR, 17 RD, 18 VCC (power)

## 8206
designator IC?, comment MICROCOMPUTER/PERIPHERAL DEVICE
OC_FARNELL: unknown; OC_NEWARK: unknown
footprint PGA68-N
part A pins: 1 DI.0, 2 STB, 3 SEDCU, 4 M/!S, 5 CBI/SYI0, 6 CBI/SYI1, 7 CBI/SYI2, 8 CBI/SYI3, 9 CBI/SYI4, 10 CBI/SYI5, 11 CBI/SYI6, 12 CBI/SYI7, 13 PI0/POS0, 14 PI1/POS1, 15 PI2/NSL0, 16 PI3/NSL1, 17 PI4/CE, 18 PPI5, 19 PPI6, 20 PPI7, 21 R/!W, 22 ERROR (out), 23 SY/CB/P0 (out), 24 SY/CB/P1 (out), 25 SY/CB/P2 (out), 27 SY/CB/P3 (out), 28 SY/CB/P4 (out), 29 SY/CB/P5 (out), 30 SY/CB/P6 (out), 31 SY/CB/P7 (out), 32 BM1, 33 BM0, 34 WZ, 35 DO/WDI15, 36 DO/WDI14, 37 DO/WDI13, 38 DO/WDI12, 39 DO/WDI11, 40 DO/WDI10, 41 DO/WDI9, 42 DO/WDI8, 44 DO/WDI7, 45 DO/WDI6, 46 DO/WDI5, 47 DO/WDI4, 48 DO/WDI3, 49 DO/WDI2, 50 DO/WDI1, 51 DO/WDI0, 52 CRCT, 53 DI.15, 54 DI.14, 55 DI.13, 56 DI.12, 57 DI.11, 58 DI.10, 59 DI.9, 61 DI.8, 62 DI.7, 63 DI.6, 64 DI.5, 65 DI.4, 66 DI.3, 67 DI.2, 68 DI.1
part B pins: 26 VSS@1 (power), 43 VSS@2 (power), 60 VCC (power)

## 8207
designator IC?, comment MICROCOMPUTER/PERIPHERAL DEVICE
OC_FARNELL: unknown; OC_NEWARK: unknown
footprint PGA68-N
part A pins: 1 LEN (out), 2 XA/ACKA (out), 3 XB/ACKB (out), 4 AACKA/WZ (out), 5 AACKB/RW (out), 6 DBM (out), 7 ESTB (out), 8 LOCK, 10 CE, 11 ERROR, 12 MUX/PCLK (out), 13 PSEL (out), 14 PSEN (out), 15 WE (out), 16 FWR, 17 RESET, 18 CAS0 (out), 19 CAS1 (out), 20 CAS2 (out), 21 CAS3 (out), 22 RAS0 (out), 23 RAS1 (out), 24 RAS2 (out), 25 RAS3 (out), 27 AO8 (out), 28 AO7 (out), 29 AO6 (out), 30 AO5 (out), 31 AO4 (out), 32 AO3 (out), 33 AO2 (out), 34 AO1 (out), 35 AO0 (out), 36 BS0, 37 BS1, 38 AL0, 39 AL1, 40 AL2, 41 AL3, 42 AL4, 44 AL5, 45 AL6, 46 AL7, 47 AL8, 48 AH0, 49 AH1, 50 AH2, 51 AH3, 52 AH4, 53 AH5, 54 AH6, 55 AH7, 56 AH8, 57 PDI, 58 RFRQ, 59 CLK, 61 RDB, 62 WRB, 63 PEB, 64 PCTLB, 65 RDA, 66 WRA, 67 PEA, 68 PCTLA
part B pins: 9 VCC@1 (power), 26 VSS@1 (power), 43 VCC@2 (power), 60 VSS@2 (power)

## 8224
designator IC?, comment MICROCOMPUTER/PERIPHERAL DEVICE
OC_FARNELL: unknown; OC_NEWARK: unknown
footprint DIL16
pins: 1 RESET (out), 2 RESIN, 3 RDYIN, 4 READY (out), 5 SYNC, 6 PHI2(TTL) (out), 7 STSTB (out), 8 GND (power), 9 VDD (power), 10 PHI2 (out), 11 PHI1 (out), 12 OSC (out), 13 TANK, 14 XTAL2, 15 XTAL1, 16 VCC (power)

## 8228
designator IC?, comment MICROCOMPUTER/PERIPHERAL DEVICE
OC_FARNELL: unknown; OC_NEWARK: unknown
footprint DIL28-6
pins: 1 STSTB, 2 HLDA, 3 WR, 4 DBIN, 5 DB4, 6 D4, 7 DB7, 8 D7, 9 DB3, 10 D3, 11 DB2, 12 D2, 13 DB0, 14 GND (power), 15 D0, 16 DB1, 17 D1, 18 DB5, 19 D5, 20 DB6, 21 D6, 22 BUSEN, 23 INTA (out), 24 MEMR (out), 25 I/OR (out), 26 MEMW (out), 27 I/OW (out), 28 VCC (power)

## 8231A
designator IC?, comment MICROCOMPUTER/PERIPHERAL DEVICE
OC_FARNELL: unknown; OC_NEWARK: unknown
footprint DIL24-6
pins: 1 VSS (power), 2 VCC (power), 3 EACK, 4 SVACK, 5 SVREQ (out), 8 DB0, 9 DB1, 10 DB2, 11 DB3, 12 DB4, 13 DB5, 14 DB6, 15 DB7, 16 VDD (power), 17 READY (out), 18 CS, 19 WR, 20 RD, 21 A0, 22 RESET, 23 CLK, 24 END (out)

## 8237A
designator IC?, comment MICROCOMPUTER/PERIPHERAL DEVICE
OC_FARNELL: unknown; OC_NEWARK: unknown
footprint DIL40
part A pins: 1 IOR, 2 IOW, 3 MEMR (out), 4 MEMW (out), 5 PIN5, 6 READY, 7 HLDA, 8 ADSTB (out), 9 AEN (out), 10 HRQ (out), 11 CS, 12 CLK, 13 RESET, 14 DACK2 (out), 15 DACK3 (out), 16 DREQ3, 17 DREQ2, 18 DREQ1, 19 DREQ0, 21 DB7, 22 DB6, 23 DB5, 24 DACK1 (out), 25 DACK0 (out), 26 DB4, 27 DB3, 28 DB2, 29 DB1, 30 DB0, 32 A0, 33 A1, 34 A2, 35 A3, 36 EOP, 37 A4 (out), 38 A5 (out), 39 A6 (out), 40 A7 (out)
part B pins: 20 GND (power), 31 VCC (power)

## 8251A
designator IC?, comment Universal Syncronous/Asynchronous Receiver/Transmitter (USART)   Source: http://www.alldatasheet.com/datasheet-pdf/pdf/INTEL/8251A.html
OC_FARNELL: unknown; OC_NEWARK: unknown
footprint DIL28-6
pins: 1 D2 (hiz), 2 D3 (hiz), 3 RXD, 4 GND (power), 5 D4 (hiz), 6 D5 (hiz), 7 D6 (hiz), 8 D7 (hiz), 9 !TXC, 10 !WR, 11 !CS, 12 C/!D, 13 !RD, 14 RXRDY (out), 15 TXRDY (out), 16 SYNDET, 17 !CTS, 18 TXE (out), 19 TXD (out), 20 CLK, 21 RESET, 22 !DSR, 23 !RTS (out), 24 !DTR (out), 25 !RXC, 26 VCC (power), 27 D0 (hiz), 28 D1 (hiz)

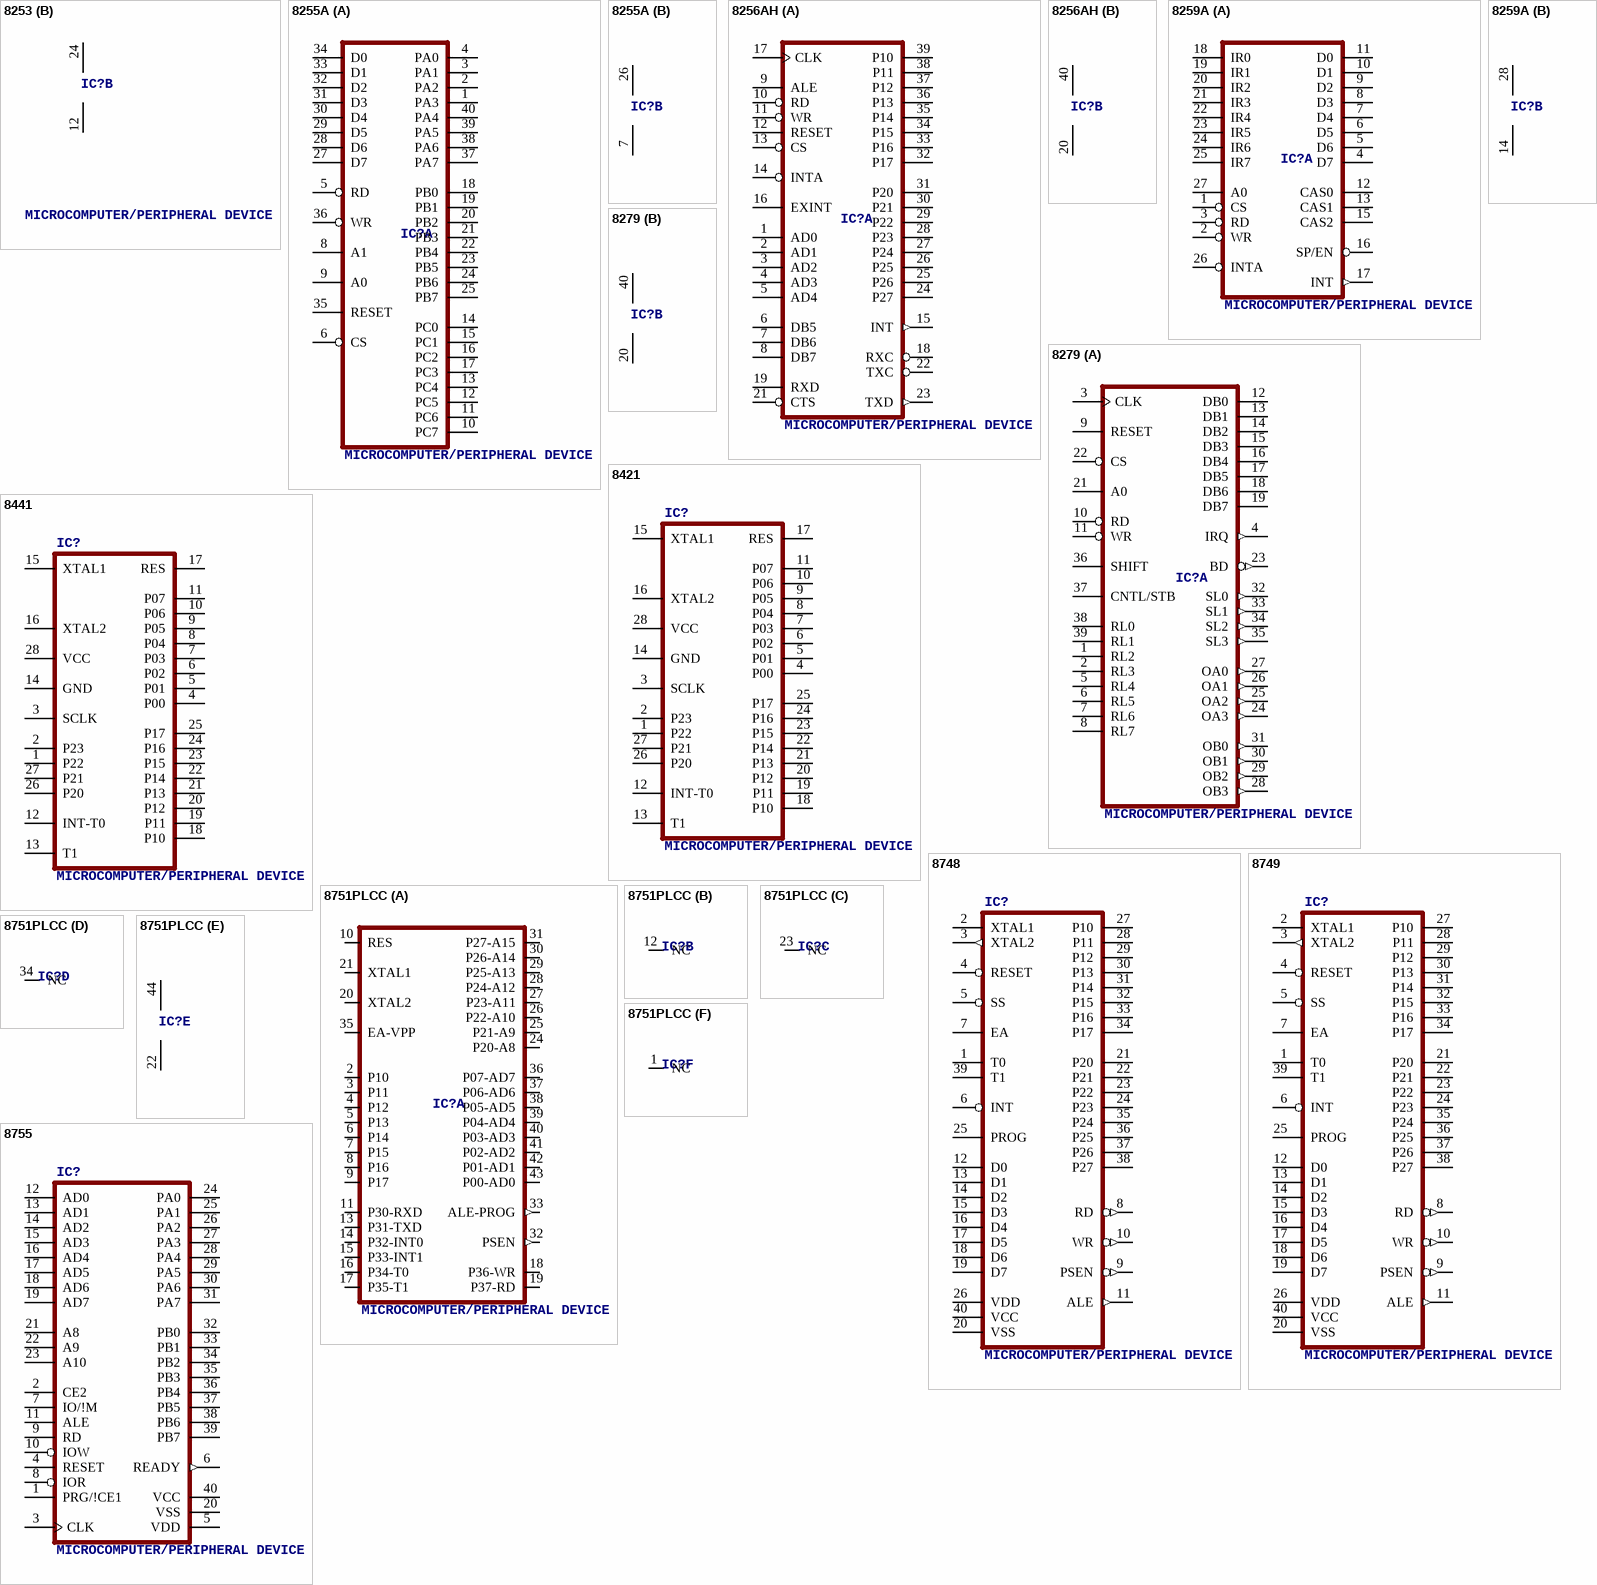
[diagram p6: symbols 8253 to 8755]

## 8253
designator IC?, comment MICROCOMPUTER/PERIPHERAL DEVICE
OC_FARNELL: unknown; OC_NEWARK: unknown
footprint DIL24-6
part A pins: 1 D7, 2 D6, 3 D5, 4 D4, 5 D3, 6 D2, 7 D1, 8 D0, 9 CLK0, 10 OUT0 (out), 11 GATE0, 13 OUT1 (out), 14 GATE1, 15 CLK1, 16 GATE2, 17 OUT2 (out), 18 CLK2, 19 A0, 20 A1, 21 CS, 22 RD, 23 WR
part B pins: 12 GND (power), 24 VCC (power)

## 8255A
designator IC?, comment MICROCOMPUTER/PERIPHERAL DEVICE
OC_FARNELL: unknown; OC_NEWARK: unknown
footprint DIL40
part A pins: 1 PA3, 2 PA2, 3 PA1, 4 PA0, 5 RD, 6 CS, 8 A1, 9 A0, 10 PC7, 11 PC6, 12 PC5, 13 PC4, 14 PC0, 15 PC1, 16 PC2, 17 PC3, 18 PB0, 19 PB1, 20 PB2, 21 PB3, 22 PB4, 23 PB5, 24 PB6, 25 PB7, 27 D7, 28 D6, 29 D5, 30 D4, 31 D3, 32 D2, 33 D1, 34 D0, 35 RESET, 36 WR, 37 PA7, 38 PA6, 39 PA5, 40 PA4
part B pins: 7 GND (power), 26 VCC (power)

## 8256AH
designator IC?, comment MICROCOMPUTER/PERIPHERAL DEVICE
OC_FARNELL: unknown; OC_NEWARK: unknown
footprint DIL40
part A pins: 1 AD0, 2 AD1, 3 AD2, 4 AD3, 5 AD4, 6 DB5, 7 DB6, 8 DB7, 9 ALE, 10 RD, 11 WR, 12 RESET, 13 CS, 14 INTA, 15 INT (out), 16 EXINT, 17 CLK, 18 RXC, 19 RXD, 21 CTS, 22 TXC, 23 TXD (out), 24 P27, 25 P26, 26 P25, 27 P24, 28 P23, 29 P22, 30 P21, 31 P20, 32 P17, 33 P16, 34 P15, 35 P14, 36 P13, 37 P12, 38 P11, 39 P10
part B pins: 20 GND (power), 40 VCC (power)

## 8259A
designator IC?, comment MICROCOMPUTER/PERIPHERAL DEVICE
OC_FARNELL: unknown; OC_NEWARK: unknown
footprint DIL28-6
part A pins: 1 CS, 2 WR, 3 RD, 4 D7, 5 D6, 6 D5, 7 D4, 8 D3, 9 D2, 10 D1, 11 D0, 12 CAS0, 13 CAS1, 15 CAS2, 16 SP/EN, 17 INT (out), 18 IR0, 19 IR1, 20 IR2, 21 IR3, 22 IR4, 23 IR5, 24 IR6, 25 IR7, 26 INTA, 27 A0
part B pins: 14 GND (power), 28 VCC (power)

## 8279
designator IC?, comment MICROCOMPUTER/PERIPHERAL DEVICE
OC_FARNELL: unknown; OC_NEWARK: unknown
footprint DIL40
part A pins: 1 RL2, 2 RL3, 3 CLK, 4 IRQ (out), 5 RL4, 6 RL5, 7 RL6, 8 RL7, 9 RESET, 10 RD, 11 WR, 12 DB0, 13 DB1, 14 DB2, 15 DB3, 16 DB4, 17 DB5, 18 DB6, 19 DB7, 21 A0, 22 CS, 23 BD (out), 24 OA3 (out), 25 OA2 (out), 26 OA1 (out), 27 OA0 (out), 28 OB3 (out), 29 OB2 (out), 30 OB1 (out), 31 OB0 (out), 32 SL0 (out), 33 SL1 (out), 34 SL2 (out), 35 SL3 (out), 36 SHIFT, 37 CNTL/STB, 38 RL0, 39 RL1
part B pins: 20 GND (power), 40 VCC (power)

## 8421
designator IC?, comment MICROCOMPUTER/PERIPHERAL DEVICE
OC_FARNELL: unknown; OC_NEWARK: unknown
footprint DIL28-6
pins: 1 P22, 2 P23, 3 SCLK, 4 P00, 5 P01, 6 P02, 7 P03, 8 P04, 9 P05, 10 P06, 11 P07, 12 INT-T0, 13 T1, 14 GND (power), 15 XTAL1, 16 XTAL2, 17 RES, 18 P10, 19 P11, 20 P12, 21 P13, 22 P14, 23 P15, 24 P16, 25 P17, 26 P20, 27 P21, 28 VCC (power)

## 8441
designator IC?, comment MICROCOMPUTER/PERIPHERAL DEVICE
OC_FARNELL: unknown; OC_NEWARK: unknown
footprint DIL28-6
pins: 1 P22, 2 P23, 3 SCLK, 4 P00, 5 P01, 6 P02, 7 P03, 8 P04, 9 P05, 10 P06, 11 P07, 12 INT-T0, 13 T1, 14 GND (power), 15 XTAL1, 16 XTAL2, 17 RES, 18 P10, 19 P11, 20 P12, 21 P13, 22 P14, 23 P15, 24 P16, 25 P17, 26 P20, 27 P21, 28 VCC (power)

## 8748
designator IC?, comment MICROCOMPUTER/PERIPHERAL DEVICE
OC_FARNELL: unknown; OC_NEWARK: unknown
footprint DIL40
pins: 1 T0, 2 XTAL1, 3 XTAL2 (out), 4 RESET, 5 SS, 6 INT, 7 EA, 8 RD (out), 9 PSEN (out), 10 WR (out), 11 ALE (out), 12 D0, 13 D1, 14 D2, 15 D3, 16 D4, 17 D5, 18 D6, 19 D7, 20 VSS (power), 21 P20, 22 P21, 23 P22, 24 P23, 25 PROG, 26 VDD (power), 27 P10, 28 P11, 29 P12, 30 P13, 31 P14, 32 P15, 33 P16, 34 P17, 35 P24, 36 P25, 37 P26, 38 P27, 39 T1, 40 VCC (power)

## 8749
designator IC?, comment MICROCOMPUTER/PERIPHERAL DEVICE
OC_FARNELL: unknown; OC_NEWARK: unknown
footprint DIL40
pins: 1 T0, 2 XTAL1, 3 XTAL2 (out), 4 RESET, 5 SS, 6 INT, 7 EA, 8 RD (out), 9 PSEN (out), 10 WR (out), 11 ALE (out), 12 D0, 13 D1, 14 D2, 15 D3, 16 D4, 17 D5, 18 D6, 19 D7, 20 VSS (power), 21 P20, 22 P21, 23 P22, 24 P23, 25 PROG, 26 VDD (power), 27 P10, 28 P11, 29 P12, 30 P13, 31 P14, 32 P15, 33 P16, 34 P17, 35 P24, 36 P25, 37 P26, 38 P27, 39 T1, 40 VCC (power)

## 8751PLCC
designator IC?, comment MICROCOMPUTER/PERIPHERAL DEVICE
OC_FARNELL: unknown; OC_NEWARK: unknown
footprint PLCC44
part A pins: 2 P10, 3 P11, 4 P12, 5 P13, 6 P14, 7 P15, 8 P16, 9 P17, 10 RES, 11 P30-RXD, 13 P31-TXD, 14 P32-INT0, 15 P33-INT1, 16 P34-T0, 17 P35-T1, 18 P36-WR, 19 P37-RD, 20 XTAL2, 21 XTAL1, 24 P20-A8, 25 P21-A9, 26 P22-A10, 27 P23-A11, 28 P24-A12, 29 P25-A13, 30 P26-A14, 31 P27-A15, 32 PSEN (out), 33 ALE-PROG (out), 35 EA-VPP, 36 P07-AD7, 37 P06-AD6, 38 P05-AD5, 39 P04-AD4, 40 P03-AD3, 41 P02-AD2, 42 P01-AD1, 43 P00-AD0
part B pins: 12 NC
part C pins: 23 NC
part D pins: 34 NC
part E pins: 22 GND (power), 44 VCC (power)
part F pins: 1 NC

## 8755
designator IC?, comment MICROCOMPUTER/PERIPHERAL DEVICE
OC_FARNELL: unknown; OC_NEWARK: unknown
footprint DIL40
pins: 1 PRG/!CE1, 2 CE2, 3 CLK, 4 RESET, 5 VDD (power), 6 READY (out), 7 IO/!M, 8 IOR, 9 RD, 10 IOW, 11 ALE, 12 AD0, 13 AD1, 14 AD2, 15 AD3, 16 AD4, 17 AD5, 18 AD6, 19 AD7, 20 VSS (power), 21 A8, 22 A9, 23 A10, 24 PA0, 25 PA1, 26 PA2, 27 PA3, 28 PA4, 29 PA5, 30 PA6, 31 PA7, 32 PB0, 33 PB1, 34 PB2, 35 PB3, 36 PB4, 37 PB5, 38 PB6, 39 PB7, 40 VCC (power)

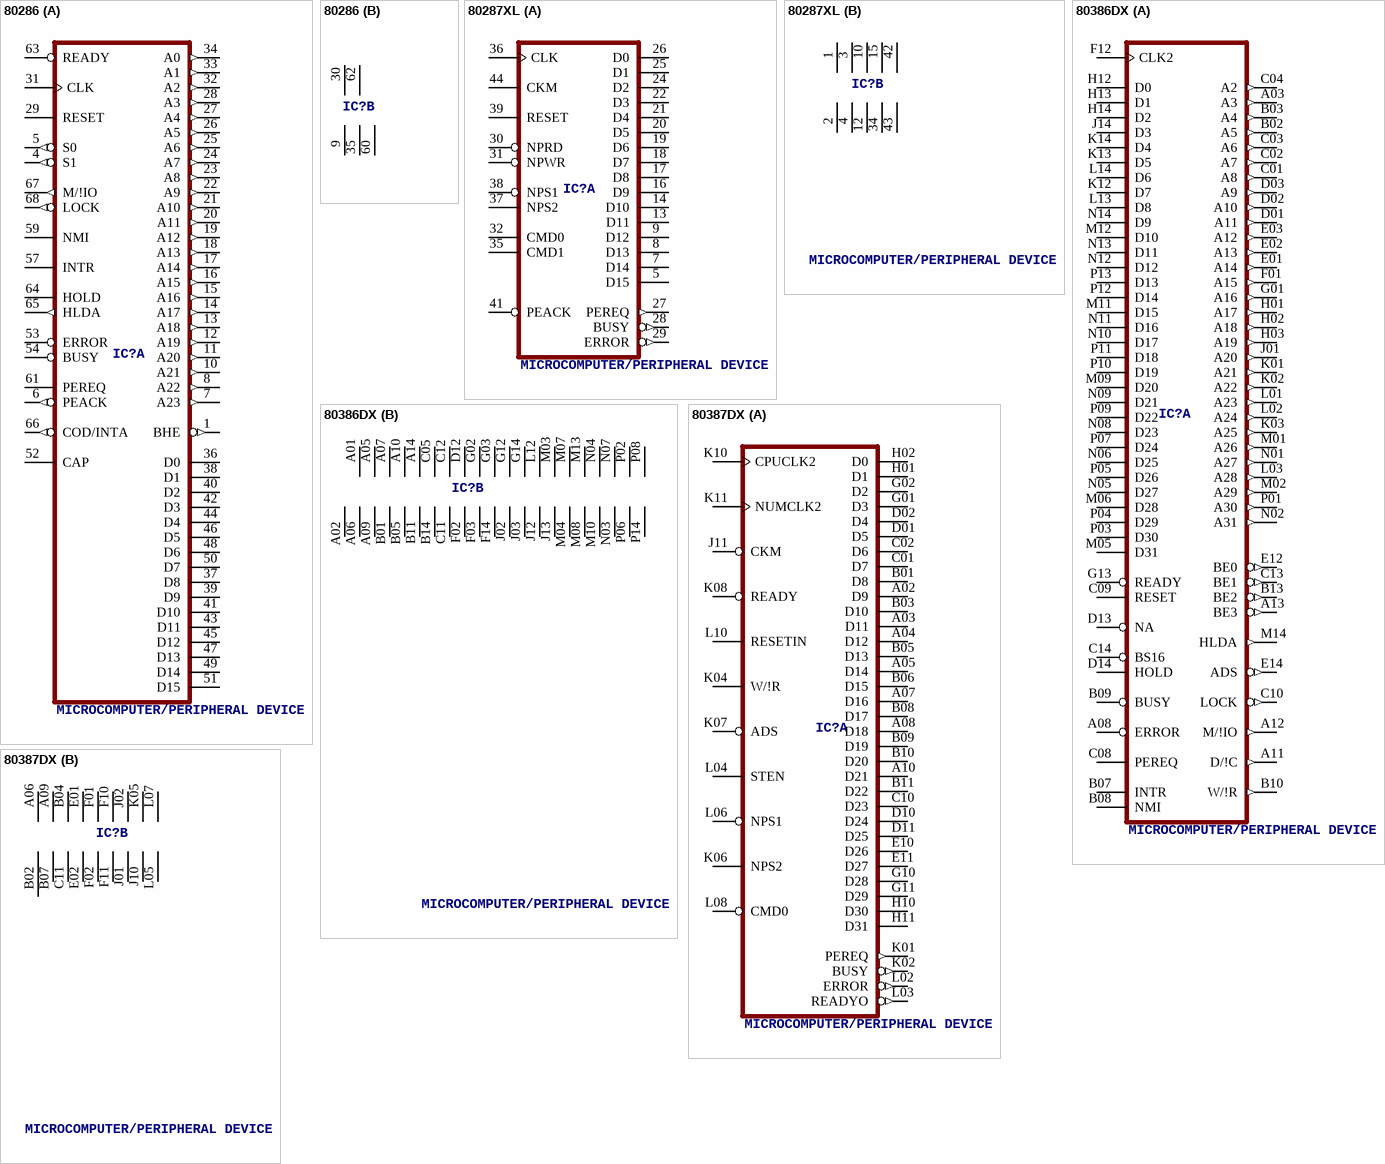
[diagram p7: symbols 80286 to 80387DX]

## 80286
designator IC?, comment MICROCOMPUTER/PERIPHERAL DEVICE
OC_FARNELL: unknown; OC_NEWARK: unknown
footprint PGA68-N
part A pins: 1 BHE (out), 4 S1 (out), 5 S0 (out), 6 PEACK (out), 7 A23 (out), 8 A22 (out), 10 A21 (out), 11 A20 (out), 12 A19 (out), 13 A18 (out), 14 A17 (out), 15 A16 (out), 16 A15 (out), 17 A14 (out), 18 A13 (out), 19 A12 (out), 20 A11 (out), 21 A10 (out), 22 A9 (out), 23 A8 (out), 24 A7 (out), 25 A6 (out), 26 A5 (out), 27 A4 (out), 28 A3 (out), 29 RESET, 31 CLK, 32 A2 (out), 33 A1 (out), 34 A0 (out), 36 D0, 37 D8, 38 D1, 39 D9, 40 D2, 41 D10, 42 D3, 43 D11, 44 D4, 45 D12, 46 D5, 47 D13, 48 D6, 49 D14, 50 D7, 51 D15, 52 CAP, 53 ERROR, 54 BUSY, 57 INTR, 59 NMI, 61 PEREQ, 63 READY, 64 HOLD, 65 HLDA (out), 66 COD/INTA (out), 67 M/!IO (out), 68 LOCK (out)
part B pins: 9 VSS@1 (power), 30 VCC@1 (power), 35 VSS@2 (power), 60 VSS@3 (power), 62 VCC@2 (power)

## 80287XL
designator IC?, comment MICROCOMPUTER/PERIPHERAL DEVICE
OC_FARNELL: unknown; OC_NEWARK: unknown
footprint S44
part A pins: 5 D15, 7 D14, 8 D13, 9 D12, 13 D11, 14 D10, 16 D9, 17 D8, 18 D7, 19 D6, 20 D5, 21 D4, 22 D3, 24 D2, 25 D1, 26 D0, 27 PEREQ (out), 28 BUSY (out), 29 ERROR (out), 30 NPRD, 31 NPWR, 32 CMD0, 35 CMD1, 36 CLK, 37 NPS2, 38 NPS1, 39 RESET, 41 PEACK, 44 CKM
part B pins: 1 VCC@1 (power), 2 VSS@1 (power), 3 VCC@2 (power), 4 VSS@2 (power), 10 VCC@3 (power), 12 VSS@3 (power), 15 VCC@4 (power), 34 VSS@4 (power), 42 VCC@5 (power), 43 VSS@5 (power)

## 80386DX
designator IC?, comment MICROCOMPUTER/PERIPHERAL DEVICE
OC_FARNELL: unknown; OC_NEWARK: unknown
footprint PGA132
part A pins: A03 A3 (out), A08 ERROR, A11 D/!C (out), A12 M/!IO (out), A13 BE3 (out), B02 A5 (out), B03 A4 (out), B07 INTR, B08 NMI, B09 BUSY, B10 W/!R (out), B13 BE2 (out), C01 A8 (out), C02 A7 (out), C03 A6 (out), C04 A2 (out), C08 PEREQ, C09 RESET, C10 LOCK (out), C13 BE1 (out), C14 BS16, D01 A11 (out), D02 A10 (out), D03 A9 (out), D13 NA, D14 HOLD, E01 A14 (out), E02 A13 (out), E03 A12 (out), E12 BE0 (out), E14 ADS (out), F01 A15 (out), F12 CLK2, G01 A16 (out), G13 READY, H01 A17 (out), H02 A18 (out), H03 A19 (out), H12 D0, H13 D1, H14 D2, J01 A20 (out), J14 D3, K01 A21 (out), K02 A22 (out), K03 A25 (out), K12 D7, K13 D5, K14 D4, L01 A23 (out), L02 A24 (out), L03 A28 (out), L13 D8, L14 D6, M01 A26 (out), M02 A29 (out), M05 D31, M06 D28, M09 D20, M11 D15, M12 D10, M14 HLDA (out), N01 A27 (out), N02 A31 (out), N05 D27, N06 D25, N08 D23, N09 D21, N10 D17, N11 D16, N12 D12, N13 D11, N14 D9, P01 A30 (out), P03 D30, P04 D29, P05 D26, P07 D24, P09 D22, P10 D19, P11 D18, P12 D14, P13 D13
part B pins: A01 VCC@1 (power), A02 VSS@1 (power), A05 VCC@2 (power), A06 VSS@2 (power), A07 VCC@3 (power), A09 VSS@3 (power), A10 VCC@4 (power), A14 VCC@5 (power), B01 VSS@4 (power), B05 VSS@5 (power), B11 VSS@6 (power), B14 VSS@7 (power), C05 VCC@6 (power), C11 VSS@8 (power), C12 VCC@7 (power), D12 VCC@8 (power), F02 VSS@9 (power), F03 VSS@10 (power), F14 VSS@11 (power), G02 VCC@9 (power), G03 VCC@10 (power), G12 VCC@11 (power), G14 VCC@12 (power), J02 VSS@12 (power), J03 VSS@13 (power), J12 VSS@14 (power), J13 VSS@15 (power), L12 VCC@13 (power), M03 VCC@14 (power), M04 VSS@16 (power), M07 VCC@15 (power), M08 VSS@17 (power), M10 VSS@18 (power), M13 VCC@16 (power), N03 VSS@19 (power), N04 VCC@17 (power), N07 VCC@18 (power), P02 VCC@19 (power), P06 VSS@20 (power), P08 VCC@20 (power), P14 VSS@21 (power)

## 80387DX
designator IC?, comment MICROCOMPUTER/PERIPHERAL DEVICE
OC_FARNELL: unknown; OC_NEWARK: unknown
footprint PGA68
part A pins: A02 D9, A03 D11, A04 D12, A05 D14, A07 D16, A08 D18, A10 D21, B01 D8, B03 D10, B05 D13, B06 D15, B08 D17, B09 D19, B10 D20, B11 D22, C01 D7, C02 D6, C10 D23, D01 D5, D02 D4, D10 D24, D11 D25, E10 D26, E11 D27, G01 D3, G02 D2, G10 D28, G11 D29, H01 D1, H02 D0, H10 D30, H11 D31, J11 CKM, K01 PEREQ (out), K02 BUSY (out), K04 W/!R, K06 NPS2, K07 ADS, K08 READY, K10 CPUCLK2, K11 NUMCLK2, L02 ERROR (out), L03 READYO (out), L04 STEN, L06 NPS1, L08 CMD0, L10 RESETIN
part B pins: A06 VCC@1 (power), A09 VCC@2 (power), B02 VSS@1 (power), B04 VCC@3 (power), B07 VSS@2 (power), C11 VSS@3 (power), E01 VCC@4 (power), E02 VSS@4 (power), F01 VCC@5 (power), F02 VSS@5 (power), F10 VCC@6 (power), F11 VSS@6 (power), J01 VSS@7 (power), J02 VCC@7 (power), J10 VSS@8 (power), K05 VCC@8 (power), L05 VSS@9 (power), L07 VCC@9 (power)

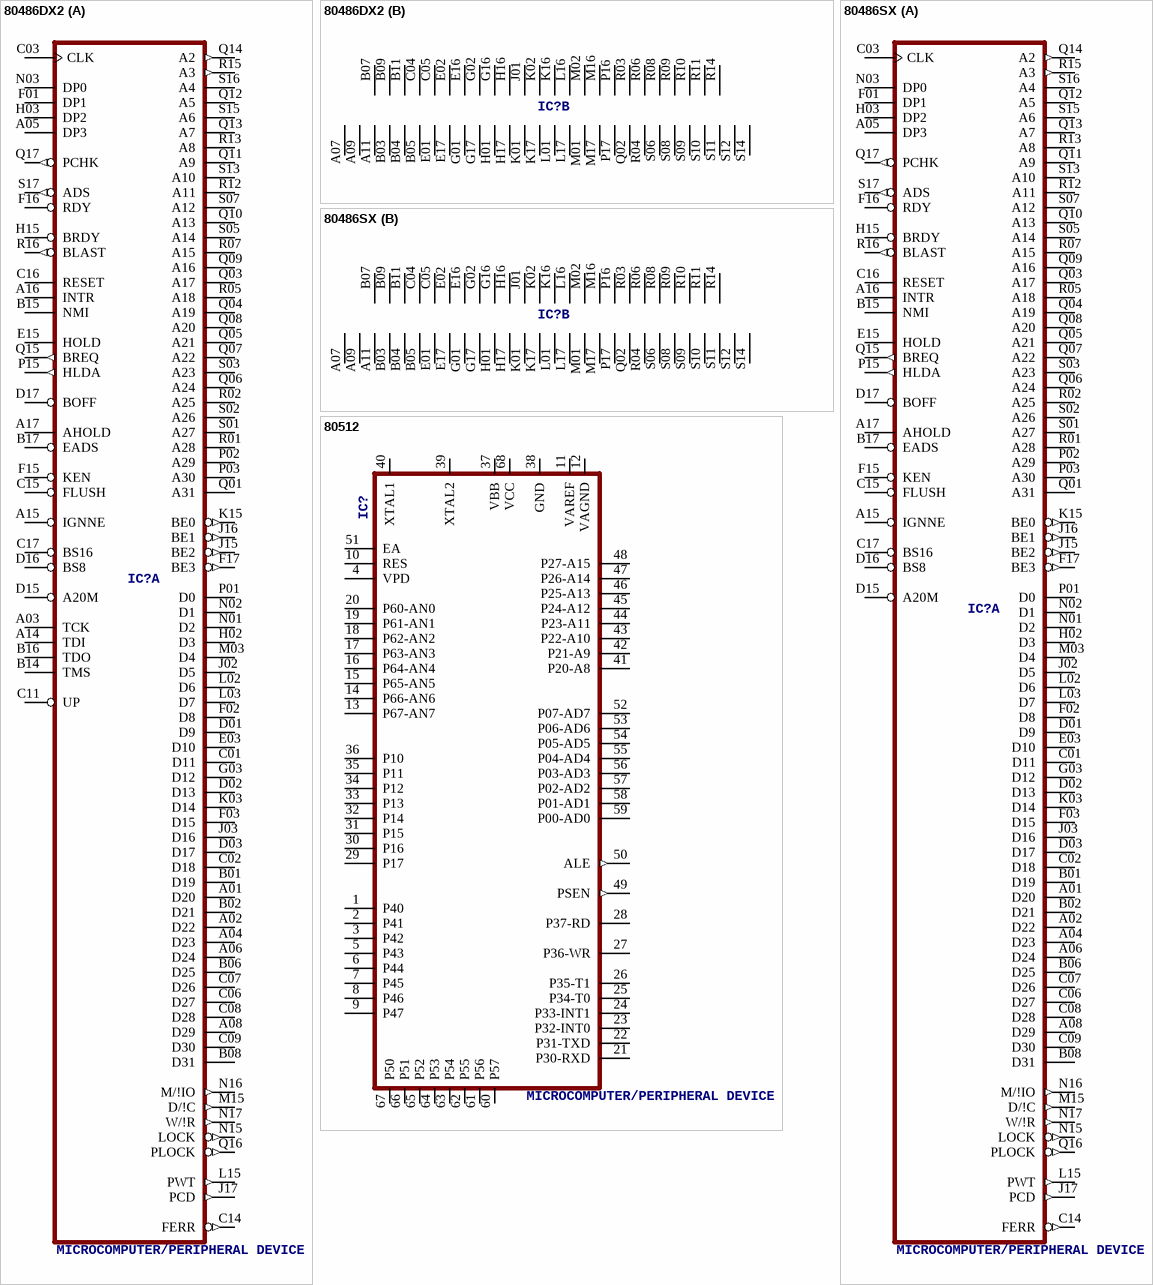
[diagram p8: symbols 80486DX2 to 80512]

## 80486DX2
designator IC?, comment MICROCOMPUTER/PERIPHERAL DEVICE
OC_FARNELL: unknown; OC_NEWARK: unknown
footprint PGA168
part A pins: A01 D20, A02 D22, A03 TCK, A04 D23, A05 DP3, A06 D24, A08 D29, A14 TDI, A15 IGNNE, A16 INTR, A17 AHOLD, B01 D19, B02 D21, B06 D25, B08 D31, B14 TMS, B15 NMI, B16 TDO, B17 EADS, C01 D11, C02 D18, C03 CLK, C06 D27, C07 D26, C08 D28, C09 D30, C11 UP, C14 FERR (out), C15 FLUSH, C16 RESET, C17 BS16, D01 D9, D02 D13, D03 D17, D15 A20M, D16 BS8, D17 BOFF, E03 D10, E15 HOLD, F01 DP1, F02 D8, F03 D15, F15 KEN, F16 RDY, F17 BE3 (out), G03 D12, H02 D3, H03 DP2, H15 BRDY, J02 D5, J03 D16, J15 BE2 (out), J16 BE1 (out), J17 PCD (out), K03 D14, K15 BE0 (out), L02 D6, L03 D7, L15 PWT (out), M03 D4, M15 D/!C (out), N01 D2, N02 D1, N03 DP0, N15 LOCK (out), N16 M/!IO (out), N17 W/!R (out), P01 D0, P02 A29, P03 A30, P15 HLDA (out), Q01 A31, Q03 A17, Q04 A19, Q05 A21, Q06 A24, Q07 A22, Q08 A20, Q09 A16, Q10 A13, Q11 A9, Q12 A5, Q13 A7, Q14 A2 (out), Q15 BREQ (out), Q16 PLOCK (out), Q17 PCHK (out), R01 A28, R02 A25, R05 A18, R07 A15, R12 A11, R13 A8, R15 A3 (out), R16 BLAST (out), S01 A27, S02 A26, S03 A23, S05 A14, S07 A12, S13 A10, S15 A6, S16 A4, S17 ADS (out)
part B pins: A07 VSS@1 (power), A09 VSS@2 (power), A11 VSS@3 (power), B03 VSS@4 (power), B04 VSS@5 (power), B05 VSS@6 (power), B07 VCC@1 (power), B09 VCC@2 (power), B11 VCC@3 (power), C04 VCC@4 (power), C05 VCC@5 (power), E01 VSS@7 (power), E02 VCC@6 (power), E16 VCC@7 (power), E17 VSS@8 (power), G01 VSS@9 (power), G02 VCC@8 (power), G16 VCC@9 (power), G17 VSS@10 (power), H01 VSS@11 (power), H16 VCC@10 (power), H17 VSS@12 (power), J01 VCC@11 (power), K01 VSS@13 (power), K02 VCC@12 (power), K16 VCC@13 (power), K17 VSS@14 (power), L01 VSS@15 (power), L16 VCC@14 (power), L17 VSS@16 (power), M01 VSS@17 (power), M02 VCC@15 (power), M16 VCC@16 (power), M17 VSS@18 (power), P16 VCC@17 (power), P17 VSS@19 (power), Q02 VSS@20 (power), R03 VCC@18 (power), R04 VSS@21 (power), R06 VCC@19 (power), R08 VCC@20 (power), R09 VCC@21 (power), R10 VCC@22 (power), R11 VCC@23 (power), R14 VCC@24 (power), S06 VSS@22 (power), S08 VSS@23 (power), S09 VSS@24 (power), S10 VSS@25 (power), S11 VSS@26 (power), S12 VSS@27 (power), S14 VSS@28 (power)

## 80486SX
designator IC?, comment MICROCOMPUTER/PERIPHERAL DEVICE
OC_FARNELL: unknown; OC_NEWARK: unknown
footprint PGA168
part A pins: A01 D20, A02 D22, A04 D23, A05 DP3, A06 D24, A08 D29, A15 IGNNE, A16 INTR, A17 AHOLD, B01 D19, B02 D21, B06 D25, B08 D31, B15 NMI, B17 EADS, C01 D11, C02 D18, C03 CLK, C06 D27, C07 D26, C08 D28, C09 D30, C14 FERR (out), C15 FLUSH, C16 RESET, C17 BS16, D01 D9, D02 D13, D03 D17, D15 A20M, D16 BS8, D17 BOFF, E03 D10, E15 HOLD, F01 DP1, F02 D8, F03 D15, F15 KEN, F16 RDY, F17 BE3 (out), G03 D12, H02 D3, H03 DP2, H15 BRDY, J02 D5, J03 D16, J15 BE2 (out), J16 BE1 (out), J17 PCD (out), K03 D14, K15 BE0 (out), L02 D6, L03 D7, L15 PWT (out), M03 D4, M15 D/!C (out), N01 D2, N02 D1, N03 DP0, N15 LOCK (out), N16 M/!IO (out), N17 W/!R (out), P01 D0, P02 A29, P03 A30, P15 HLDA (out), Q01 A31, Q03 A17, Q04 A19, Q05 A21, Q06 A24, Q07 A22, Q08 A20, Q09 A16, Q10 A13, Q11 A9, Q12 A5, Q13 A7, Q14 A2 (out), Q15 BREQ (out), Q16 PLOCK (out), Q17 PCHK (out), R01 A28, R02 A25, R05 A18, R07 A15, R12 A11, R13 A8, R15 A3 (out), R16 BLAST (out), S01 A27, S02 A26, S03 A23, S05 A14, S07 A12, S13 A10, S15 A6, S16 A4, S17 ADS (out)
part B pins: A07 VSS@1 (power), A09 VSS@2 (power), A11 VSS@3 (power), B03 VSS@4 (power), B04 VSS@5 (power), B05 VSS@6 (power), B07 VCC@1 (power), B09 VCC@2 (power), B11 VCC@3 (power), C04 VCC@4 (power), C05 VCC@5 (power), E01 VSS@7 (power), E02 VCC@6 (power), E16 VCC@7 (power), E17 VSS@8 (power), G01 VSS@9 (power), G02 VCC@8 (power), G16 VCC@9 (power), G17 VSS@10 (power), H01 VSS@11 (power), H16 VCC@10 (power), H17 VSS@12 (power), J01 VCC@11 (power), K01 VSS@13 (power), K02 VCC@12 (power), K16 VCC@13 (power), K17 VSS@14 (power), L01 VSS@15 (power), L16 VCC@14 (power), L17 VSS@16 (power), M01 VSS@17 (power), M02 VCC@15 (power), M16 VCC@16 (power), M17 VSS@18 (power), P16 VCC@17 (power), P17 VSS@19 (power), Q02 VSS@20 (power), R03 VCC@18 (power), R04 VSS@21 (power), R06 VCC@19 (power), R08 VCC@20 (power), R09 VCC@21 (power), R10 VCC@22 (power), R11 VCC@23 (power), R14 VCC@24 (power), S06 VSS@22 (power), S08 VSS@23 (power), S09 VSS@24 (power), S10 VSS@25 (power), S11 VSS@26 (power), S12 VSS@27 (power), S14 VSS@28 (power)

## 80512
designator IC?, comment MICROCOMPUTER/PERIPHERAL DEVICE
OC_FARNELL: unknown; OC_NEWARK: unknown
footprint S68
pins: 1 P40, 2 P41, 3 P42, 4 VPD (power), 5 P43, 6 P44, 7 P45, 8 P46, 9 P47, 10 RES, 11 VAREF (power), 12 VAGND (power), 13 P67-AN7, 14 P66-AN6, 15 P65-AN5, 16 P64-AN4, 17 P63-AN3, 18 P62-AN2, 19 P61-AN1, 20 P60-AN0, 21 P30-RXD, 22 P31-TXD, 23 P32-INT0, 24 P33-INT1, 25 P34-T0, 26 P35-T1, 27 P36-WR, 28 P37-RD, 29 P17, 30 P16, 31 P15, 32 P14, 33 P13, 34 P12, 35 P11, 36 P10, 37 VBB (power), 38 GND (power), 39 XTAL2, 40 XTAL1, 41 P20-A8, 42 P21-A9, 43 P22-A10, 44 P23-A11, 45 P24-A12, 46 P25-A13, 47 P26-A14, 48 P27-A15, 49 PSEN (out), 50 ALE (out), 51 EA, 52 P07-AD7, 53 P06-AD6, 54 P05-AD5, 55 P04-AD4, 56 P03-AD3, 57 P02-AD2, 58 P01-AD1, 59 P00-AD0, 60 P57, 61 P56, 62 P55, 63 P54, 64 P53, 65 P52, 66 P51, 67 P50, 68 VCC (power)

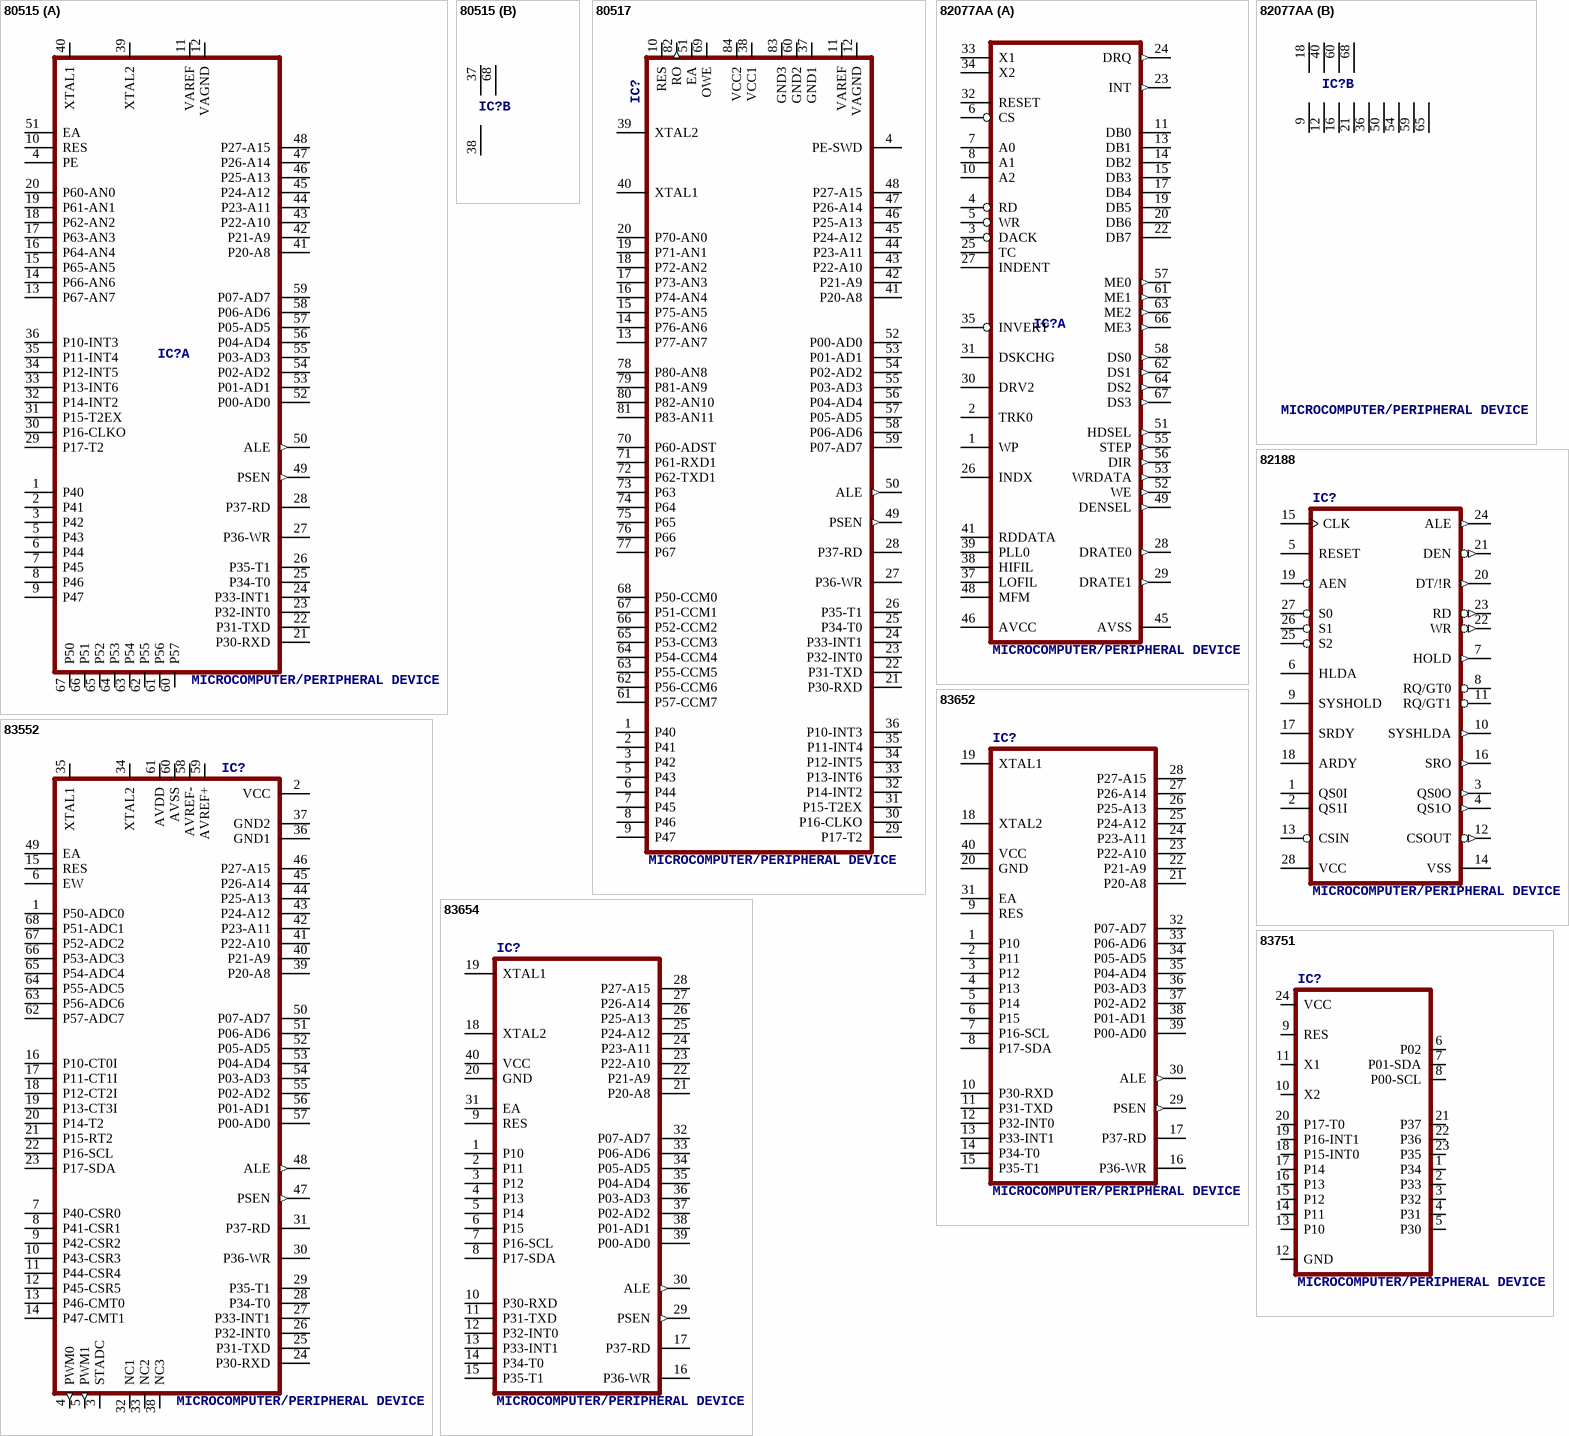
[diagram p9: symbols 80515 to 83751]

## 80515
designator IC?, comment MICROCOMPUTER/PERIPHERAL DEVICE
OC_FARNELL: unknown; OC_NEWARK: unknown
footprint S68
part A pins: 1 P40, 2 P41, 3 P42, 4 PE, 5 P43, 6 P44, 7 P45, 8 P46, 9 P47, 10 RES, 11 VAREF (power), 12 VAGND (power), 13 P67-AN7, 14 P66-AN6, 15 P65-AN5, 16 P64-AN4, 17 P63-AN3, 18 P62-AN2, 19 P61-AN1, 20 P60-AN0, 21 P30-RXD, 22 P31-TXD, 23 P32-INT0, 24 P33-INT1, 25 P34-T0, 26 P35-T1, 27 P36-WR, 28 P37-RD, 29 P17-T2, 30 P16-CLKO, 31 P15-T2EX, 32 P14-INT2, 33 P13-INT6, 34 P12-INT5, 35 P11-INT4, 36 P10-INT3, 39 XTAL2, 40 XTAL1, 41 P20-A8, 42 P21-A9, 43 P22-A10, 44 P23-A11, 45 P24-A12, 46 P25-A13, 47 P26-A14, 48 P27-A15, 49 PSEN (out), 50 ALE (out), 51 EA, 52 P00-AD0, 53 P01-AD1, 54 P02-AD2, 55 P03-AD3, 56 P04-AD4, 57 P05-AD5, 58 P06-AD6, 59 P07-AD7, 60 P57, 61 P56, 62 P55, 63 P54, 64 P53, 65 P52, 66 P51, 67 P50
part B pins: 37 VCC (power), 38 GND (power), 68 VCC@1 (power)

## 80517
designator IC?, comment MICROCOMPUTER/PERIPHERAL DEVICE
OC_FARNELL: unknown; OC_NEWARK: unknown
footprint S84
pins: 1 P40, 2 P41, 3 P42, 4 PE-SWD, 5 P43, 6 P44, 7 P45, 8 P46, 9 P47, 10 RES, 11 VAREF (power), 12 VAGND (power), 13 P77-AN7, 14 P76-AN6, 15 P75-AN5, 16 P74-AN4, 17 P73-AN3, 18 P72-AN2, 19 P71-AN1, 20 P70-AN0, 21 P30-RXD, 22 P31-TXD, 23 P32-INT0, 24 P33-INT1, 25 P34-T0, 26 P35-T1, 27 P36-WR, 28 P37-RD, 29 P17-T2, 30 P16-CLKO, 31 P15-T2EX, 32 P14-INT2, 33 P13-INT6, 34 P12-INT5, 35 P11-INT4, 36 P10-INT3, 37 GND1 (power), 38 VCC1 (power), 39 XTAL2, 40 XTAL1, 41 P20-A8, 42 P21-A9, 43 P22-A10, 44 P23-A11, 45 P24-A12, 46 P25-A13, 47 P26-A14, 48 P27-A15, 49 PSEN (out), 50 ALE (out), 51 EA, 52 P00-AD0, 53 P01-AD1, 54 P02-AD2, 55 P03-AD3, 56 P04-AD4, 57 P05-AD5, 58 P06-AD6, 59 P07-AD7, 60 GND2 (power), 61 P57-CCM7, 62 P56-CCM6, 63 P55-CCM5, 64 P54-CCM4, 65 P53-CCM3, 66 P52-CCM2, 67 P51-CCM1, 68 P50-CCM0, 69 OWE, 70 P60-ADST, 71 P61-RXD1, 72 P62-TXD1, 73 P63, 74 P64, 75 P65, 76 P66, 77 P67, 78 P80-AN8, 79 P81-AN9, 80 P82-AN10, 81 P83-AN11, 82 RO (out), 83 GND3 (power), 84 VCC2 (power)

## 82077AA
designator IC?, comment MICROCOMPUTER/PERIPHERAL DEVICE
OC_FARNELL: unknown; OC_NEWARK: unknown
footprint S68
part A pins: 1 WP, 2 TRK0, 3 DACK, 4 RD, 5 WR, 6 CS, 7 A0, 8 A1, 10 A2, 11 DB0, 13 DB1, 14 DB2, 15 DB3, 17 DB4, 19 DB5, 20 DB6, 22 DB7, 23 INT (out), 24 DRQ (out), 25 TC, 26 INDX, 27 INDENT, 28 DRATE0 (out), 29 DRATE1 (out), 30 DRV2, 31 DSKCHG, 32 RESET, 33 X1, 34 X2, 35 INVERT, 37 LOFIL, 38 HIFIL, 39 PLL0, 41 RDDATA, 45 AVSS (power), 46 AVCC (power), 48 MFM, 49 DENSEL (out), 51 HDSEL (out), 52 WE (out), 53 WRDATA (out), 55 STEP (out), 56 DIR (out), 57 ME0 (out), 58 DS0 (out), 61 ME1 (out), 62 DS1 (out), 63 ME2 (out), 64 DS2 (out), 66 ME3 (out), 67 DS3 (out)
part B pins: 9 VSS@1 (power), 12 VSS@2 (power), 16 VSS@3 (power), 18 VCC@1 (power), 21 VSS@4 (power), 36 VSS@5 (power), 40 VCC@2 (power), 50 VSS@6 (power), 54 VSS@7 (power), 59 VSS@8 (power), 60 VCC@3 (power), 65 VSS@9 (power), 68 VCC@4 (power)

## 82188
designator IC?, comment MICROCOMPUTER/PERIPHERAL DEVICE
OC_FARNELL: unknown; OC_NEWARK: unknown
footprint DIL28-6
pins: 1 QS0I, 2 QS1I, 3 QS0O (out), 4 QS1O (out), 5 RESET, 6 HLDA, 7 HOLD (out), 8 RQ/GT0, 9 SYSHOLD, 10 SYSHLDA (out), 11 RQ/GT1, 12 CSOUT (out), 13 CSIN, 14 VSS (power), 15 CLK, 16 SRO (out), 17 SRDY, 18 ARDY, 19 AEN, 20 DT/!R (out), 21 DEN (out), 22 WR (out), 23 RD (out), 24 ALE (out), 25 S2, 26 S1, 27 S0, 28 VCC (power)

## 83552
designator IC?, comment MICROCOMPUTER/PERIPHERAL DEVICE
OC_FARNELL: unknown; OC_NEWARK: unknown
footprint S68
pins: 1 P50-ADC0, 2 VCC (power), 3 STADC, 4 PWM0 (out), 5 PWM1 (out), 6 EW, 7 P40-CSR0, 8 P41-CSR1, 9 P42-CSR2, 10 P43-CSR3, 11 P44-CSR4, 12 P45-CSR5, 13 P46-CMT0, 14 P47-CMT1, 15 RES, 16 P10-CT0I, 17 P11-CT1I, 18 P12-CT2I, 19 P13-CT3I, 20 P14-T2, 21 P15-RT2, 22 P16-SCL, 23 P17-SDA, 24 P30-RXD, 25 P31-TXD, 26 P32-INT0, 27 P33-INT1, 28 P34-T0, 29 P35-T1, 30 P36-WR, 31 P37-RD, 32 NC1, 33 NC2, 34 XTAL2, 35 XTAL1, 36 GND1 (power), 37 GND2 (power), 38 NC3, 39 P20-A8, 40 P21-A9, 41 P22-A10, 42 P23-A11, 43 P24-A12, 44 P25-A13, 45 P26-A14, 46 P27-A15, 47 PSEN (out), 48 ALE (out), 49 EA, 50 P07-AD7, 51 P06-AD6, 52 P05-AD5, 53 P04-AD4, 54 P03-AD3, 55 P02-AD2, 56 P01-AD1, 57 P00-AD0, 58 AVREF- (power), 59 AVREF+ (power), 60 AVSS (power), 61 AVDD (power), 62 P57-ADC7, 63 P56-ADC6, 64 P55-ADC5, 65 P54-ADC4, 66 P53-ADC3, 67 P52-ADC2, 68 P51-ADC1

## 83652
designator IC?, comment MICROCOMPUTER/PERIPHERAL DEVICE
OC_FARNELL: unknown; OC_NEWARK: unknown
footprint DIL40
pins: 1 P10, 2 P11, 3 P12, 4 P13, 5 P14, 6 P15, 7 P16-SCL, 8 P17-SDA, 9 RES, 10 P30-RXD, 11 P31-TXD, 12 P32-INT0, 13 P33-INT1, 14 P34-T0, 15 P35-T1, 16 P36-WR, 17 P37-RD, 18 XTAL2, 19 XTAL1, 20 GND (power), 21 P20-A8, 22 P21-A9, 23 P22-A10, 24 P23-A11, 25 P24-A12, 26 P25-A13, 27 P26-A14, 28 P27-A15, 29 PSEN (out), 30 ALE (out), 31 EA, 32 P07-AD7, 33 P06-AD6, 34 P05-AD5, 35 P04-AD4, 36 P03-AD3, 37 P02-AD2, 38 P01-AD1, 39 P00-AD0, 40 VCC (power)

## 83654
designator IC?, comment MICROCOMPUTER/PERIPHERAL DEVICE
OC_FARNELL: unknown; OC_NEWARK: unknown
footprint DIL40
pins: 1 P10, 2 P11, 3 P12, 4 P13, 5 P14, 6 P15, 7 P16-SCL, 8 P17-SDA, 9 RES, 10 P30-RXD, 11 P31-TXD, 12 P32-INT0, 13 P33-INT1, 14 P34-T0, 15 P35-T1, 16 P36-WR, 17 P37-RD, 18 XTAL2, 19 XTAL1, 20 GND (power), 21 P20-A8, 22 P21-A9, 23 P22-A10, 24 P23-A11, 25 P24-A12, 26 P25-A13, 27 P26-A14, 28 P27-A15, 29 PSEN (out), 30 ALE (out), 31 EA, 32 P07-AD7, 33 P06-AD6, 34 P05-AD5, 35 P04-AD4, 36 P03-AD3, 37 P02-AD2, 38 P01-AD1, 39 P00-AD0, 40 VCC (power)

## 83751
designator IC?, comment MICROCOMPUTER/PERIPHERAL DEVICE
OC_FARNELL: unknown; OC_NEWARK: unknown
footprint DIL24-6
pins: 1 P34, 2 P33, 3 P32, 4 P31, 5 P30, 6 P02, 7 P01-SDA, 8 P00-SCL, 9 RES, 10 X2, 11 X1, 12 GND (power), 13 P10, 14 P11, 15 P12, 16 P13, 17 P14, 18 P15-INT0, 19 P16-INT1, 20 P17-T0, 21 P37, 22 P36, 23 P35, 24 VCC (power)

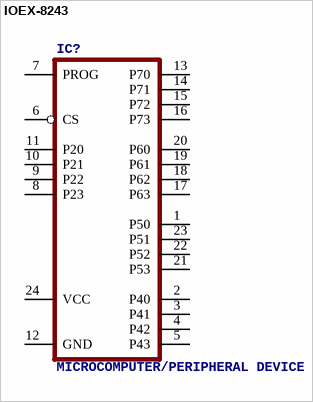
[diagram p10: symbol IOEX-8243]

## IOEX-8243
designator IC?, comment MICROCOMPUTER/PERIPHERAL DEVICE
OC_FARNELL: unknown; OC_NEWARK: unknown
footprint DIL24-6
pins: 1 P50, 2 P40, 3 P41, 4 P42, 5 P43, 6 CS, 7 PROG, 8 P23, 9 P22, 10 P21, 11 P20, 12 GND (power), 13 P70, 14 P71, 15 P72, 16 P73, 17 P63, 18 P62, 19 P61, 20 P60, 21 P53, 22 P52, 23 P51, 24 VCC (power)

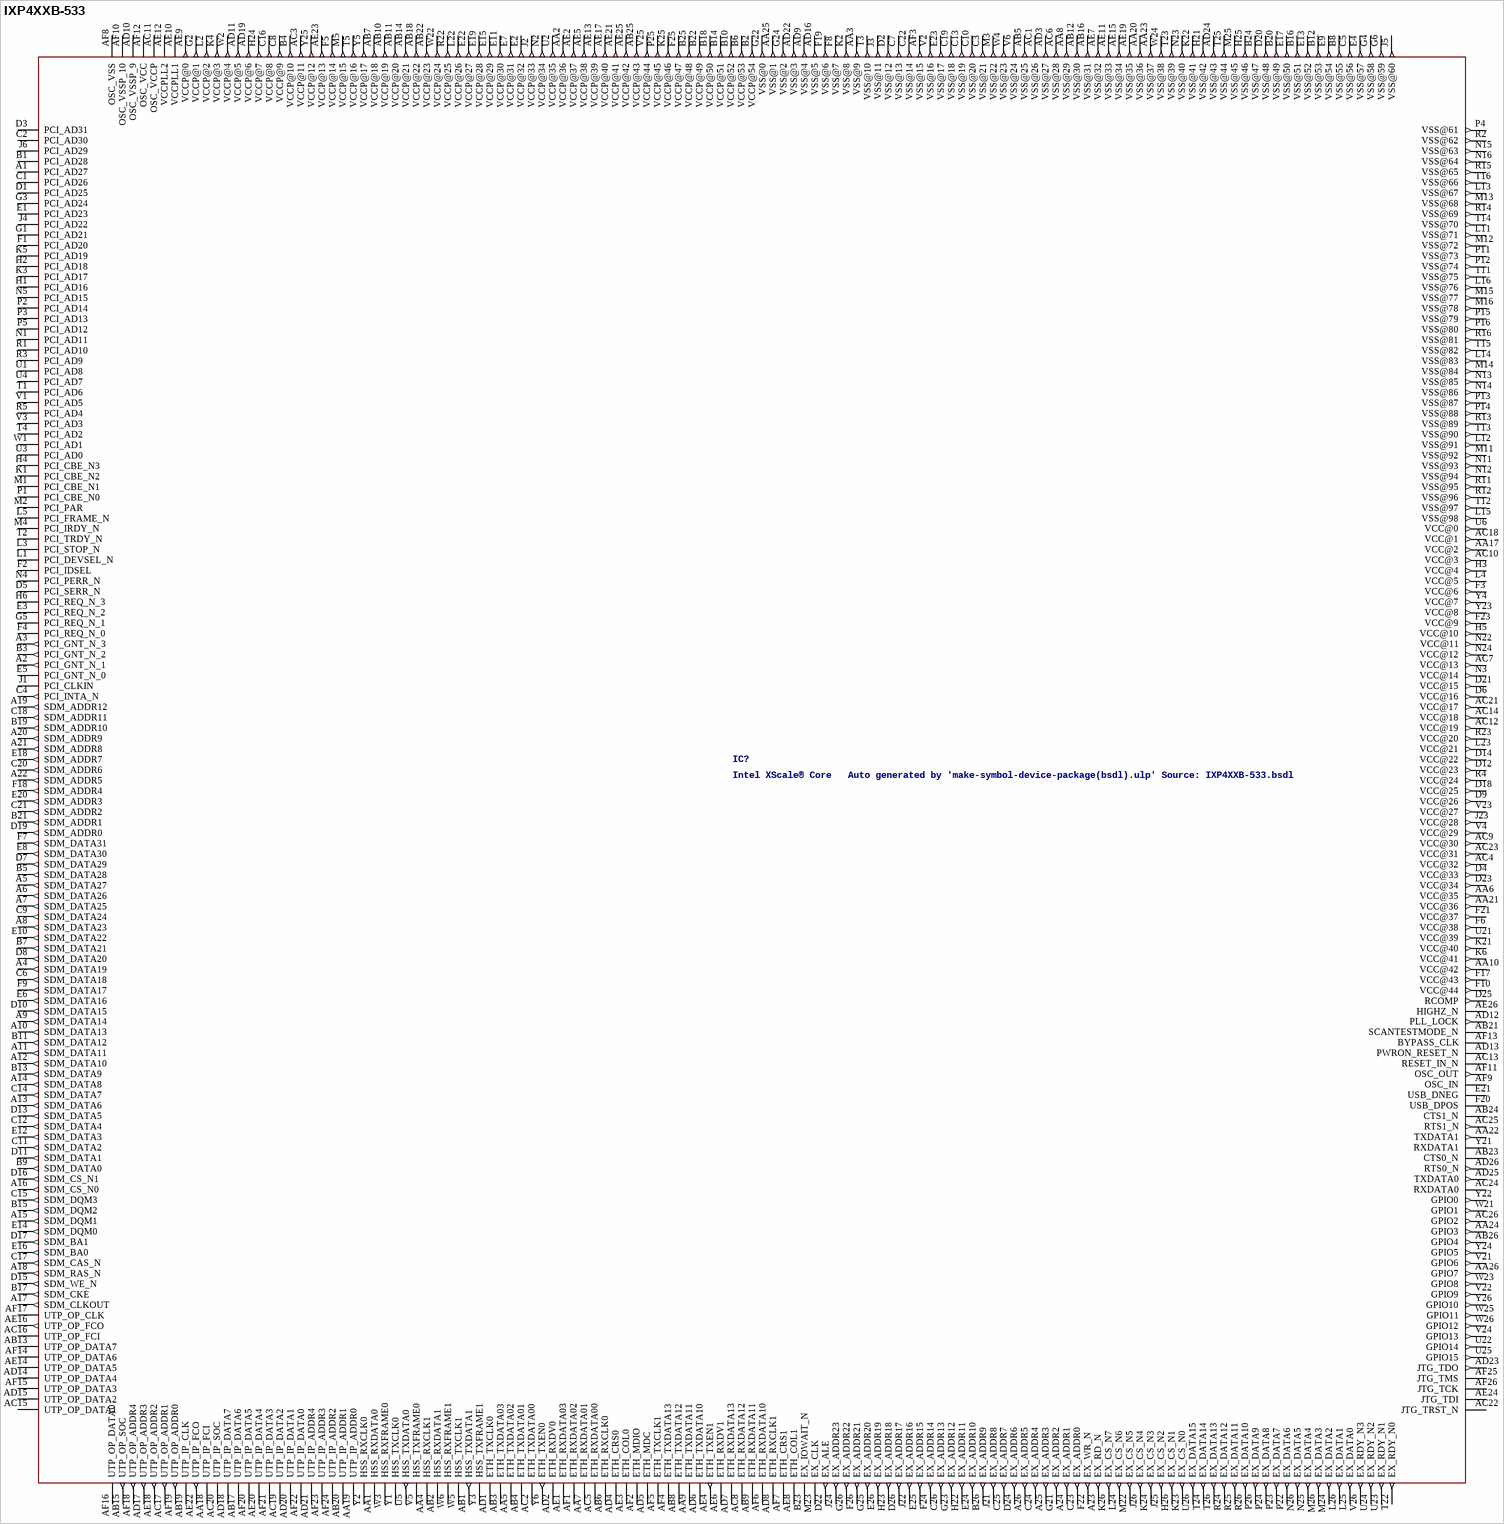
[diagram p11: symbol IXP4XXB-533]